# Altium integrated library Altera MAX V.IntLib: 184 symbols (part 7 of 16)
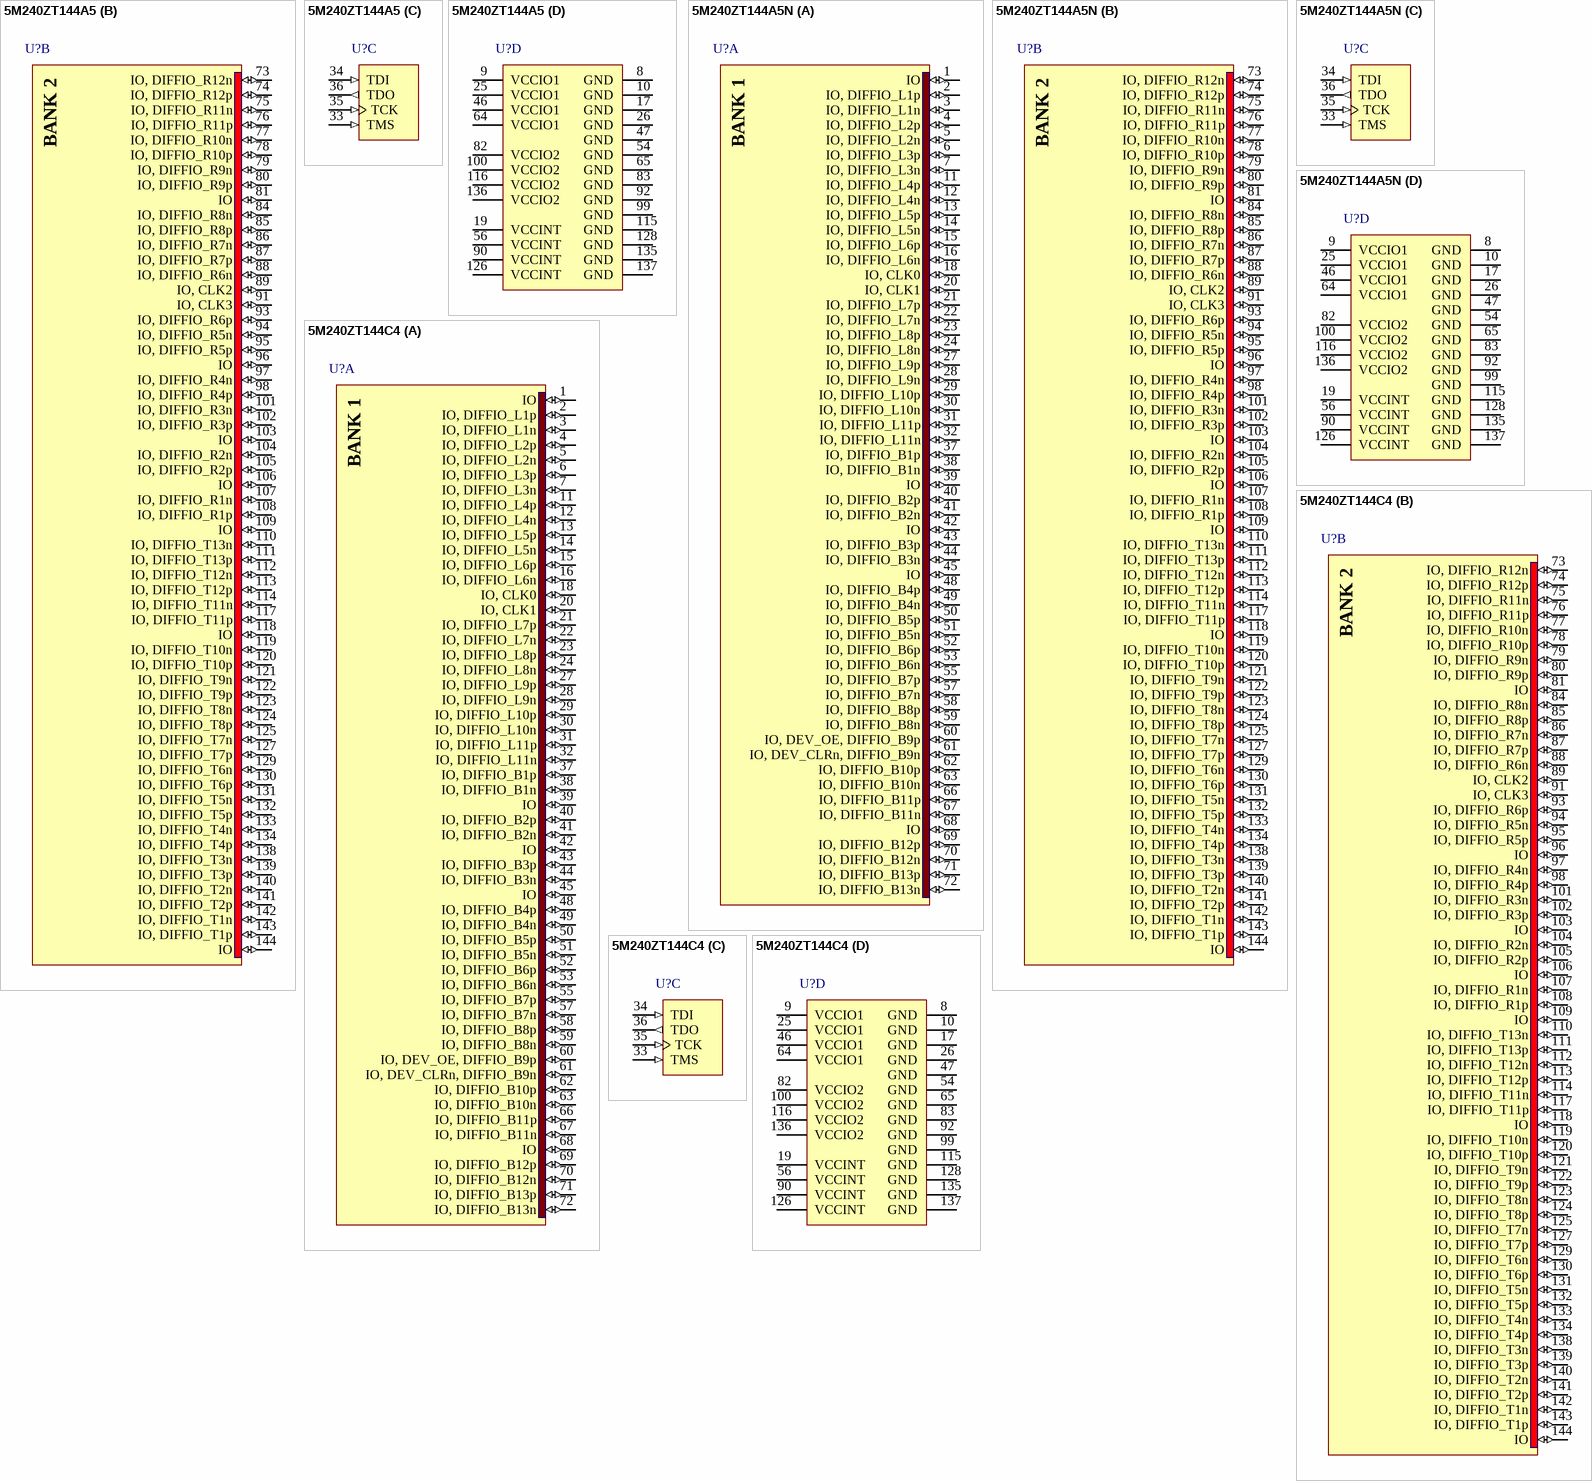
[diagram p83: symbols 5M240ZT144A5 to 5M240ZT144C4]

## 5M240ZT144C4
designator U?
MAX V 1.8V CPLD, 114 IOs, 240 Logic Elements, 144-Pin TQFP, Commercial Temperature, Speed Grade 4; DatasheetVersion: ver1.2, May-2011; PackageVersion: ver1.0, Jul-2011; PackageReference: TQFP144_A-160; PackageDescription: 144-Pin Plastic Thin Quad Flat Pack (TQFP) - Wire Bond - A:1.60; Code_JEDEC: MS-029-BFB; ComponentLink1Description: Manufacturer URL; ComponentLink1URL: http://www.altera.com/; ComponentLink2Description: Datasheet; ComponentLink2URL: http://www.altera.com/literature/hb/max-v/max5_handbook.pdf; ComponentLink3Description: MAX V Device Pin-Out files; ComponentLink3URL: http://www.altera.com/literature/lit-dp.jsp?category=MAX%205&showspreadsheet=y; ComponentLink4Description: Package Specification; ComponentLink4URL: http://www.altera.com/devicepackaging/04R00366-01.pdf
footprint TQFP144_A-160_N (Thin QFP, 144-Leads, Body 20x20mm, Pitch 0.5mm, IPC Medium Density)
footprint TQFP144_A-160_L (Thin QFP, 144-Leads, Body 20x20mm, Pitch 0.5mm, IPC High Density)
footprint TQFP144_A-160_M (Thin QFP, 144-Leads, Body 20x20mm, Pitch 0.5mm, IPC Low Density)
part A pins: 1 IO (io), 2 IO, DIFFIO_L1p (io), 3 IO, DIFFIO_L1n (io), 4 IO, DIFFIO_L2p (io), 5 IO, DIFFIO_L2n (io), 6 IO, DIFFIO_L3p (io), 7 IO, DIFFIO_L3n (io), 11 IO, DIFFIO_L4p (io), 12 IO, DIFFIO_L4n (io), 13 IO, DIFFIO_L5p (io), 14 IO, DIFFIO_L5n (io), 15 IO, DIFFIO_L6p (io), 16 IO, DIFFIO_L6n (io), 18 IO, CLK0 (io), 20 IO, CLK1 (io), 21 IO, DIFFIO_L7p (io), 22 IO, DIFFIO_L7n (io), 23 IO, DIFFIO_L8p (io), 24 IO, DIFFIO_L8n (io), 27 IO, DIFFIO_L9p (io), 28 IO, DIFFIO_L9n (io), 29 IO, DIFFIO_L10p (io), 30 IO, DIFFIO_L10n (io), 31 IO, DIFFIO_L11p (io), 32 IO, DIFFIO_L11n (io), 37 IO, DIFFIO_B1p (io), 38 IO, DIFFIO_B1n (io), 39 IO (io), 40 IO, DIFFIO_B2p (io), 41 IO, DIFFIO_B2n (io), 42 IO (io), 43 IO, DIFFIO_B3p (io), 44 IO, DIFFIO_B3n (io), 45 IO (io), 48 IO, DIFFIO_B4p (io), 49 IO, DIFFIO_B4n (io), 50 IO, DIFFIO_B5p (io), 51 IO, DIFFIO_B5n (io), 52 IO, DIFFIO_B6p (io), 53 IO, DIFFIO_B6n (io), 55 IO, DIFFIO_B7p (io), 57 IO, DIFFIO_B7n (io), 58 IO, DIFFIO_B8p (io), 59 IO, DIFFIO_B8n (io), 60 IO, DEV_OE, DIFFIO_B9p (io), 61 IO, DEV_CLRn, DIFFIO_B9n (io), 62 IO, DIFFIO_B10p (io), 63 IO, DIFFIO_B10n (io), 66 IO, DIFFIO_B11p (io), 67 IO, DIFFIO_B11n (io), 68 IO (io), 69 IO, DIFFIO_B12p (io), 70 IO, DIFFIO_B12n (io), 71 IO, DIFFIO_B13p (io), 72 IO, DIFFIO_B13n (io)
part B pins: 73 IO, DIFFIO_R12n (io), 74 IO, DIFFIO_R12p (io), 75 IO, DIFFIO_R11n (io), 76 IO, DIFFIO_R11p (io), 77 IO, DIFFIO_R10n (io), 78 IO, DIFFIO_R10p (io), 79 IO, DIFFIO_R9n (io), 80 IO, DIFFIO_R9p (io), 81 IO (io), 84 IO, DIFFIO_R8n (io), 85 IO, DIFFIO_R8p (io), 86 IO, DIFFIO_R7n (io), 87 IO, DIFFIO_R7p (io), 88 IO, DIFFIO_R6n (io), 89 IO, CLK2 (io), 91 IO, CLK3 (io), 93 IO, DIFFIO_R6p (io), 94 IO, DIFFIO_R5n (io), 95 IO, DIFFIO_R5p (io), 96 IO (io), 97 IO, DIFFIO_R4n (io), 98 IO, DIFFIO_R4p (io), 101 IO, DIFFIO_R3n (io), 102 IO, DIFFIO_R3p (io), 103 IO (io), 104 IO, DIFFIO_R2n (io), 105 IO, DIFFIO_R2p (io), 106 IO (io), 107 IO, DIFFIO_R1n (io), 108 IO, DIFFIO_R1p (io), 109 IO (io), 110 IO, DIFFIO_T13n (io), 111 IO, DIFFIO_T13p (io), 112 IO, DIFFIO_T12n (io), 113 IO, DIFFIO_T12p (io), 114 IO, DIFFIO_T11n (io), 117 IO, DIFFIO_T11p (io), 118 IO (io), 119 IO, DIFFIO_T10n (io), 120 IO, DIFFIO_T10p (io), 121 IO, DIFFIO_T9n (io), 122 IO, DIFFIO_T9p (io), 123 IO, DIFFIO_T8n (io), 124 IO, DIFFIO_T8p (io), 125 IO, DIFFIO_T7n (io), 127 IO, DIFFIO_T7p (io), 129 IO, DIFFIO_T6n (io), 130 IO, DIFFIO_T6p (io), 131 IO, DIFFIO_T5n (io), 132 IO, DIFFIO_T5p (io), 133 IO, DIFFIO_T4n (io), 134 IO, DIFFIO_T4p (io), 138 IO, DIFFIO_T3n (io), 139 IO, DIFFIO_T3p (io), 140 IO, DIFFIO_T2n (io), 141 IO, DIFFIO_T2p (io), 142 IO, DIFFIO_T1n (io), 143 IO, DIFFIO_T1p (io), 144 IO (io)
part C pins: 33 TMS (in), 34 TDI (in), 35 TCK (in), 36 TDO (out)
part D pins: 8 GND (power), 9 VCCIO1 (power), 10 GND (power), 17 GND (power), 19 VCCINT (power), 25 VCCIO1 (power), 26 GND (power), 46 VCCIO1 (power), 47 GND (power), 54 GND (power), 56 VCCINT (power), 64 VCCIO1 (power), 65 GND (power), 82 VCCIO2 (power), 83 GND (power), 90 VCCINT (power), 92 GND (power), 99 GND (power), 100 VCCIO2 (power), 115 GND (power), 116 VCCIO2 (power), 126 VCCINT (power), 128 GND (power), 135 GND (power), 136 VCCIO2 (power), 137 GND (power)
part A text: BANK 1
part B text: BANK 2

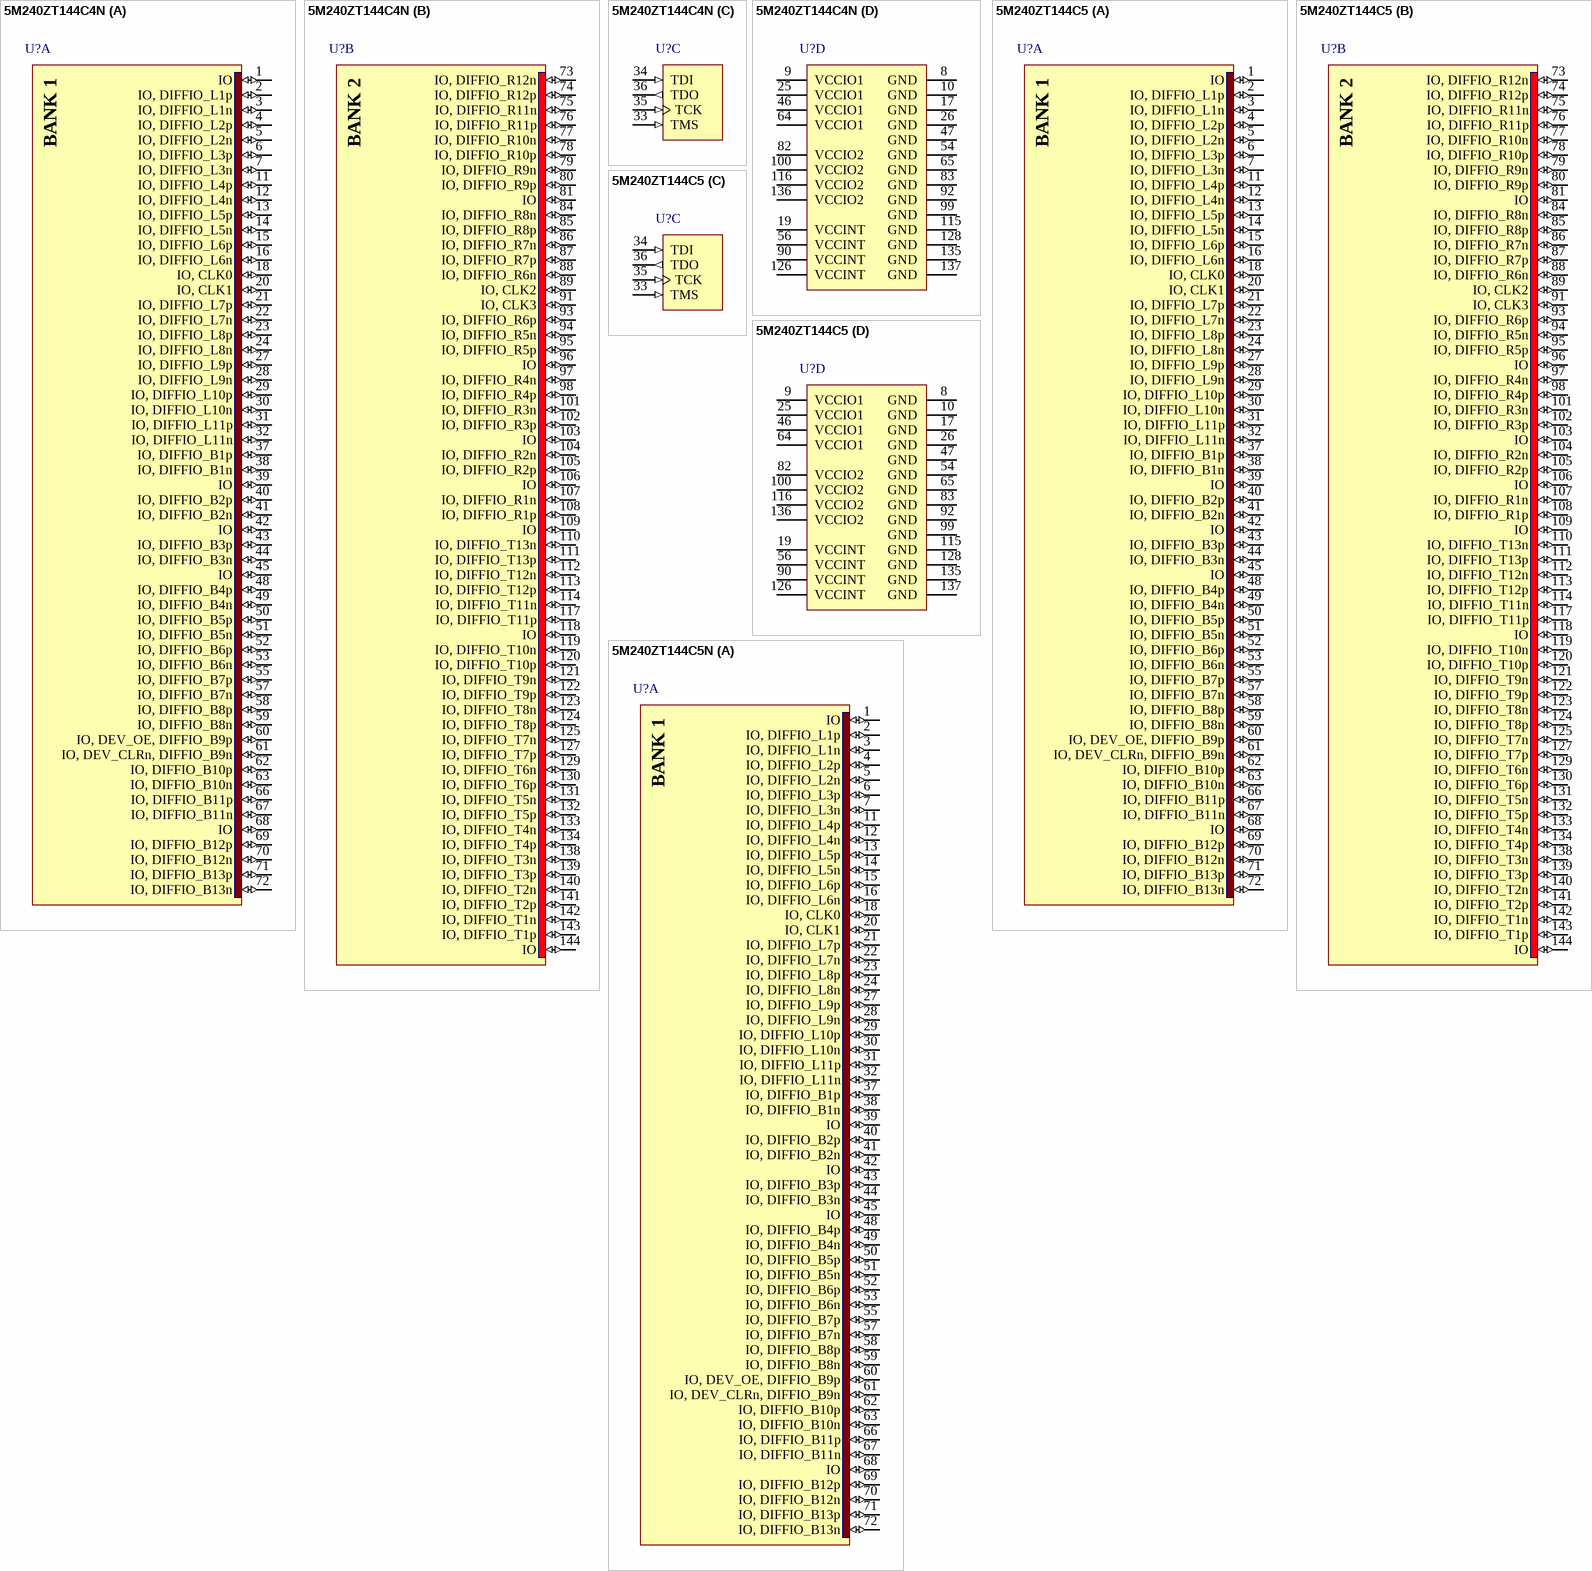
[diagram p27: symbols 5M240ZT144C4N to 5M240ZT144C5N]

## 5M240ZT144C4N
designator U?
MAX V 1.8V CPLD, 114 IOs, 240 Logic Elements, 144-Pin TQFP, Commercial Temperature, Speed Grade 4, Pb-Free; DatasheetVersion: ver1.2, May-2011; PackageVersion: ver1.0, Jul-2011; PackageReference: TQFP144_A-160; PackageDescription: 144-Pin Plastic Thin Quad Flat Pack (TQFP) - Wire Bond - A:1.60; Code_JEDEC: MS-029-BFB; ComponentLink1Description: Manufacturer URL; ComponentLink1URL: http://www.altera.com/; ComponentLink2Description: Datasheet; ComponentLink2URL: http://www.altera.com/literature/hb/max-v/max5_handbook.pdf; ComponentLink3Description: MAX V Device Pin-Out files; ComponentLink3URL: http://www.altera.com/literature/lit-dp.jsp?category=MAX%205&showspreadsheet=y; ComponentLink4Description: Package Specification; ComponentLink4URL: http://www.altera.com/devicepackaging/04R00366-01.pdf
footprint TQFP144_A-160_N (Thin QFP, 144-Leads, Body 20x20mm, Pitch 0.5mm, IPC Medium Density)
footprint TQFP144_A-160_L (Thin QFP, 144-Leads, Body 20x20mm, Pitch 0.5mm, IPC High Density)
footprint TQFP144_A-160_M (Thin QFP, 144-Leads, Body 20x20mm, Pitch 0.5mm, IPC Low Density)
part A pins: 1 IO (io), 2 IO, DIFFIO_L1p (io), 3 IO, DIFFIO_L1n (io), 4 IO, DIFFIO_L2p (io), 5 IO, DIFFIO_L2n (io), 6 IO, DIFFIO_L3p (io), 7 IO, DIFFIO_L3n (io), 11 IO, DIFFIO_L4p (io), 12 IO, DIFFIO_L4n (io), 13 IO, DIFFIO_L5p (io), 14 IO, DIFFIO_L5n (io), 15 IO, DIFFIO_L6p (io), 16 IO, DIFFIO_L6n (io), 18 IO, CLK0 (io), 20 IO, CLK1 (io), 21 IO, DIFFIO_L7p (io), 22 IO, DIFFIO_L7n (io), 23 IO, DIFFIO_L8p (io), 24 IO, DIFFIO_L8n (io), 27 IO, DIFFIO_L9p (io), 28 IO, DIFFIO_L9n (io), 29 IO, DIFFIO_L10p (io), 30 IO, DIFFIO_L10n (io), 31 IO, DIFFIO_L11p (io), 32 IO, DIFFIO_L11n (io), 37 IO, DIFFIO_B1p (io), 38 IO, DIFFIO_B1n (io), 39 IO (io), 40 IO, DIFFIO_B2p (io), 41 IO, DIFFIO_B2n (io), 42 IO (io), 43 IO, DIFFIO_B3p (io), 44 IO, DIFFIO_B3n (io), 45 IO (io), 48 IO, DIFFIO_B4p (io), 49 IO, DIFFIO_B4n (io), 50 IO, DIFFIO_B5p (io), 51 IO, DIFFIO_B5n (io), 52 IO, DIFFIO_B6p (io), 53 IO, DIFFIO_B6n (io), 55 IO, DIFFIO_B7p (io), 57 IO, DIFFIO_B7n (io), 58 IO, DIFFIO_B8p (io), 59 IO, DIFFIO_B8n (io), 60 IO, DEV_OE, DIFFIO_B9p (io), 61 IO, DEV_CLRn, DIFFIO_B9n (io), 62 IO, DIFFIO_B10p (io), 63 IO, DIFFIO_B10n (io), 66 IO, DIFFIO_B11p (io), 67 IO, DIFFIO_B11n (io), 68 IO (io), 69 IO, DIFFIO_B12p (io), 70 IO, DIFFIO_B12n (io), 71 IO, DIFFIO_B13p (io), 72 IO, DIFFIO_B13n (io)
part B pins: 73 IO, DIFFIO_R12n (io), 74 IO, DIFFIO_R12p (io), 75 IO, DIFFIO_R11n (io), 76 IO, DIFFIO_R11p (io), 77 IO, DIFFIO_R10n (io), 78 IO, DIFFIO_R10p (io), 79 IO, DIFFIO_R9n (io), 80 IO, DIFFIO_R9p (io), 81 IO (io), 84 IO, DIFFIO_R8n (io), 85 IO, DIFFIO_R8p (io), 86 IO, DIFFIO_R7n (io), 87 IO, DIFFIO_R7p (io), 88 IO, DIFFIO_R6n (io), 89 IO, CLK2 (io), 91 IO, CLK3 (io), 93 IO, DIFFIO_R6p (io), 94 IO, DIFFIO_R5n (io), 95 IO, DIFFIO_R5p (io), 96 IO (io), 97 IO, DIFFIO_R4n (io), 98 IO, DIFFIO_R4p (io), 101 IO, DIFFIO_R3n (io), 102 IO, DIFFIO_R3p (io), 103 IO (io), 104 IO, DIFFIO_R2n (io), 105 IO, DIFFIO_R2p (io), 106 IO (io), 107 IO, DIFFIO_R1n (io), 108 IO, DIFFIO_R1p (io), 109 IO (io), 110 IO, DIFFIO_T13n (io), 111 IO, DIFFIO_T13p (io), 112 IO, DIFFIO_T12n (io), 113 IO, DIFFIO_T12p (io), 114 IO, DIFFIO_T11n (io), 117 IO, DIFFIO_T11p (io), 118 IO (io), 119 IO, DIFFIO_T10n (io), 120 IO, DIFFIO_T10p (io), 121 IO, DIFFIO_T9n (io), 122 IO, DIFFIO_T9p (io), 123 IO, DIFFIO_T8n (io), 124 IO, DIFFIO_T8p (io), 125 IO, DIFFIO_T7n (io), 127 IO, DIFFIO_T7p (io), 129 IO, DIFFIO_T6n (io), 130 IO, DIFFIO_T6p (io), 131 IO, DIFFIO_T5n (io), 132 IO, DIFFIO_T5p (io), 133 IO, DIFFIO_T4n (io), 134 IO, DIFFIO_T4p (io), 138 IO, DIFFIO_T3n (io), 139 IO, DIFFIO_T3p (io), 140 IO, DIFFIO_T2n (io), 141 IO, DIFFIO_T2p (io), 142 IO, DIFFIO_T1n (io), 143 IO, DIFFIO_T1p (io), 144 IO (io)
part C pins: 33 TMS (in), 34 TDI (in), 35 TCK (in), 36 TDO (out)
part D pins: 8 GND (power), 9 VCCIO1 (power), 10 GND (power), 17 GND (power), 19 VCCINT (power), 25 VCCIO1 (power), 26 GND (power), 46 VCCIO1 (power), 47 GND (power), 54 GND (power), 56 VCCINT (power), 64 VCCIO1 (power), 65 GND (power), 82 VCCIO2 (power), 83 GND (power), 90 VCCINT (power), 92 GND (power), 99 GND (power), 100 VCCIO2 (power), 115 GND (power), 116 VCCIO2 (power), 126 VCCINT (power), 128 GND (power), 135 GND (power), 136 VCCIO2 (power), 137 GND (power)
part A text: BANK 1
part B text: BANK 2

## 5M240ZT144C5
designator U?
MAX V 1.8V CPLD, 114 IOs, 240 Logic Elements, 144-Pin TQFP, Commercial Temperature, Speed Grade 5; DatasheetVersion: ver1.2, May-2011; PackageVersion: ver1.0, Jul-2011; PackageReference: TQFP144_A-160; PackageDescription: 144-Pin Plastic Thin Quad Flat Pack (TQFP) - Wire Bond - A:1.60; Code_JEDEC: MS-029-BFB; ComponentLink1Description: Manufacturer URL; ComponentLink1URL: http://www.altera.com/; ComponentLink2Description: Datasheet; ComponentLink2URL: http://www.altera.com/literature/hb/max-v/max5_handbook.pdf; ComponentLink3Description: MAX V Device Pin-Out files; ComponentLink3URL: http://www.altera.com/literature/lit-dp.jsp?category=MAX%205&showspreadsheet=y; ComponentLink4Description: Package Specification; ComponentLink4URL: http://www.altera.com/devicepackaging/04R00366-01.pdf
footprint TQFP144_A-160_N (Thin QFP, 144-Leads, Body 20x20mm, Pitch 0.5mm, IPC Medium Density)
footprint TQFP144_A-160_L (Thin QFP, 144-Leads, Body 20x20mm, Pitch 0.5mm, IPC High Density)
footprint TQFP144_A-160_M (Thin QFP, 144-Leads, Body 20x20mm, Pitch 0.5mm, IPC Low Density)
part A pins: 1 IO (io), 2 IO, DIFFIO_L1p (io), 3 IO, DIFFIO_L1n (io), 4 IO, DIFFIO_L2p (io), 5 IO, DIFFIO_L2n (io), 6 IO, DIFFIO_L3p (io), 7 IO, DIFFIO_L3n (io), 11 IO, DIFFIO_L4p (io), 12 IO, DIFFIO_L4n (io), 13 IO, DIFFIO_L5p (io), 14 IO, DIFFIO_L5n (io), 15 IO, DIFFIO_L6p (io), 16 IO, DIFFIO_L6n (io), 18 IO, CLK0 (io), 20 IO, CLK1 (io), 21 IO, DIFFIO_L7p (io), 22 IO, DIFFIO_L7n (io), 23 IO, DIFFIO_L8p (io), 24 IO, DIFFIO_L8n (io), 27 IO, DIFFIO_L9p (io), 28 IO, DIFFIO_L9n (io), 29 IO, DIFFIO_L10p (io), 30 IO, DIFFIO_L10n (io), 31 IO, DIFFIO_L11p (io), 32 IO, DIFFIO_L11n (io), 37 IO, DIFFIO_B1p (io), 38 IO, DIFFIO_B1n (io), 39 IO (io), 40 IO, DIFFIO_B2p (io), 41 IO, DIFFIO_B2n (io), 42 IO (io), 43 IO, DIFFIO_B3p (io), 44 IO, DIFFIO_B3n (io), 45 IO (io), 48 IO, DIFFIO_B4p (io), 49 IO, DIFFIO_B4n (io), 50 IO, DIFFIO_B5p (io), 51 IO, DIFFIO_B5n (io), 52 IO, DIFFIO_B6p (io), 53 IO, DIFFIO_B6n (io), 55 IO, DIFFIO_B7p (io), 57 IO, DIFFIO_B7n (io), 58 IO, DIFFIO_B8p (io), 59 IO, DIFFIO_B8n (io), 60 IO, DEV_OE, DIFFIO_B9p (io), 61 IO, DEV_CLRn, DIFFIO_B9n (io), 62 IO, DIFFIO_B10p (io), 63 IO, DIFFIO_B10n (io), 66 IO, DIFFIO_B11p (io), 67 IO, DIFFIO_B11n (io), 68 IO (io), 69 IO, DIFFIO_B12p (io), 70 IO, DIFFIO_B12n (io), 71 IO, DIFFIO_B13p (io), 72 IO, DIFFIO_B13n (io)
part B pins: 73 IO, DIFFIO_R12n (io), 74 IO, DIFFIO_R12p (io), 75 IO, DIFFIO_R11n (io), 76 IO, DIFFIO_R11p (io), 77 IO, DIFFIO_R10n (io), 78 IO, DIFFIO_R10p (io), 79 IO, DIFFIO_R9n (io), 80 IO, DIFFIO_R9p (io), 81 IO (io), 84 IO, DIFFIO_R8n (io), 85 IO, DIFFIO_R8p (io), 86 IO, DIFFIO_R7n (io), 87 IO, DIFFIO_R7p (io), 88 IO, DIFFIO_R6n (io), 89 IO, CLK2 (io), 91 IO, CLK3 (io), 93 IO, DIFFIO_R6p (io), 94 IO, DIFFIO_R5n (io), 95 IO, DIFFIO_R5p (io), 96 IO (io), 97 IO, DIFFIO_R4n (io), 98 IO, DIFFIO_R4p (io), 101 IO, DIFFIO_R3n (io), 102 IO, DIFFIO_R3p (io), 103 IO (io), 104 IO, DIFFIO_R2n (io), 105 IO, DIFFIO_R2p (io), 106 IO (io), 107 IO, DIFFIO_R1n (io), 108 IO, DIFFIO_R1p (io), 109 IO (io), 110 IO, DIFFIO_T13n (io), 111 IO, DIFFIO_T13p (io), 112 IO, DIFFIO_T12n (io), 113 IO, DIFFIO_T12p (io), 114 IO, DIFFIO_T11n (io), 117 IO, DIFFIO_T11p (io), 118 IO (io), 119 IO, DIFFIO_T10n (io), 120 IO, DIFFIO_T10p (io), 121 IO, DIFFIO_T9n (io), 122 IO, DIFFIO_T9p (io), 123 IO, DIFFIO_T8n (io), 124 IO, DIFFIO_T8p (io), 125 IO, DIFFIO_T7n (io), 127 IO, DIFFIO_T7p (io), 129 IO, DIFFIO_T6n (io), 130 IO, DIFFIO_T6p (io), 131 IO, DIFFIO_T5n (io), 132 IO, DIFFIO_T5p (io), 133 IO, DIFFIO_T4n (io), 134 IO, DIFFIO_T4p (io), 138 IO, DIFFIO_T3n (io), 139 IO, DIFFIO_T3p (io), 140 IO, DIFFIO_T2n (io), 141 IO, DIFFIO_T2p (io), 142 IO, DIFFIO_T1n (io), 143 IO, DIFFIO_T1p (io), 144 IO (io)
part C pins: 33 TMS (in), 34 TDI (in), 35 TCK (in), 36 TDO (out)
part D pins: 8 GND (power), 9 VCCIO1 (power), 10 GND (power), 17 GND (power), 19 VCCINT (power), 25 VCCIO1 (power), 26 GND (power), 46 VCCIO1 (power), 47 GND (power), 54 GND (power), 56 VCCINT (power), 64 VCCIO1 (power), 65 GND (power), 82 VCCIO2 (power), 83 GND (power), 90 VCCINT (power), 92 GND (power), 99 GND (power), 100 VCCIO2 (power), 115 GND (power), 116 VCCIO2 (power), 126 VCCINT (power), 128 GND (power), 135 GND (power), 136 VCCIO2 (power), 137 GND (power)
part A text: BANK 1
part B text: BANK 2

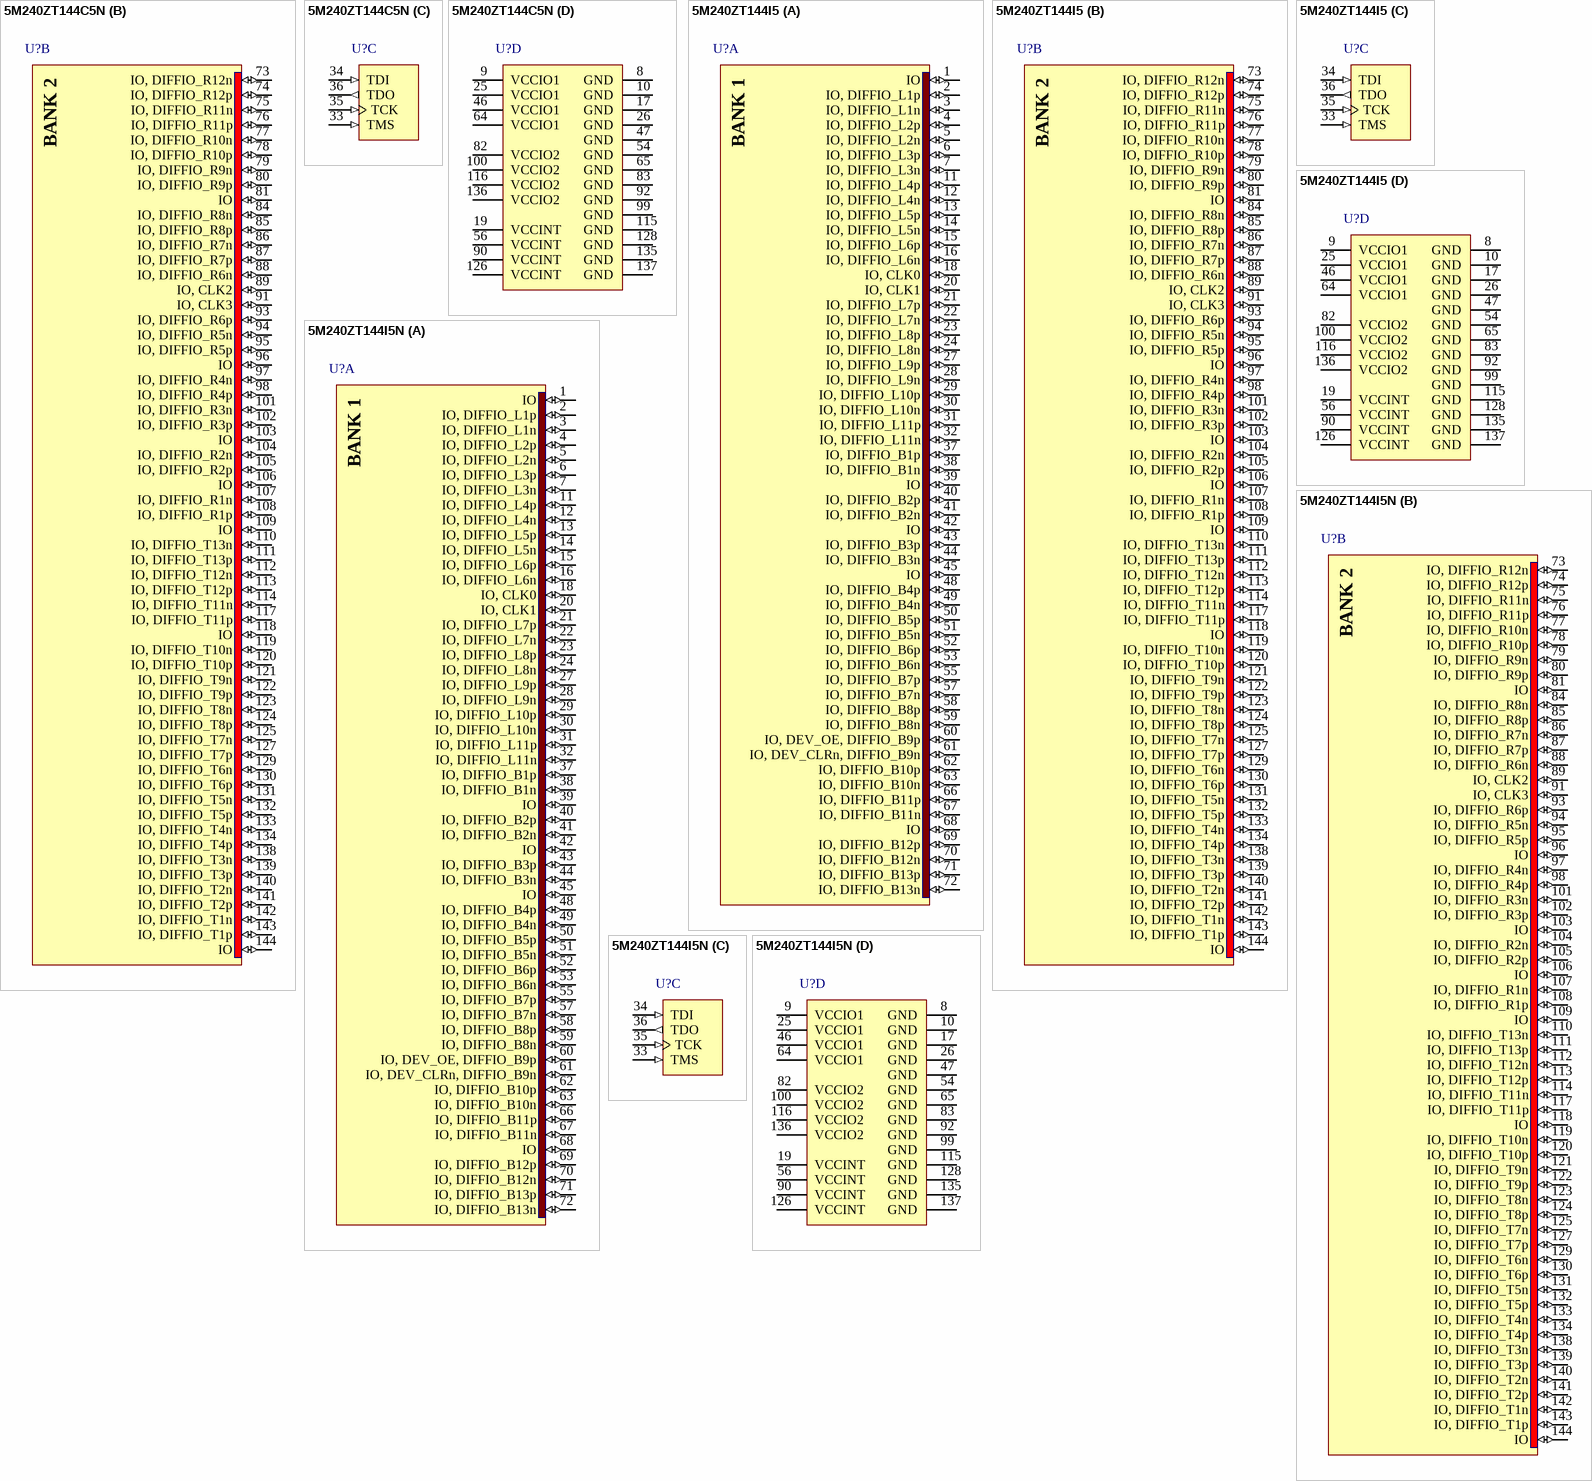
[diagram p28: symbols 5M240ZT144C5N to 5M240ZT144I5N]

## 5M240ZT144C5N
designator U?
MAX V 1.8V CPLD, 114 IOs, 240 Logic Elements, 144-Pin TQFP, Commercial Temperature, Speed Grade 5, Pb-Free; DatasheetVersion: ver1.2, May-2011; PackageVersion: ver1.0, Jul-2011; PackageReference: TQFP144_A-160; PackageDescription: 144-Pin Plastic Thin Quad Flat Pack (TQFP) - Wire Bond - A:1.60; Code_JEDEC: MS-029-BFB; ComponentLink1Description: Manufacturer URL; ComponentLink1URL: http://www.altera.com/; ComponentLink2Description: Datasheet; ComponentLink2URL: http://www.altera.com/literature/hb/max-v/max5_handbook.pdf; ComponentLink3Description: MAX V Device Pin-Out files; ComponentLink3URL: http://www.altera.com/literature/lit-dp.jsp?category=MAX%205&showspreadsheet=y; ComponentLink4Description: Package Specification; ComponentLink4URL: http://www.altera.com/devicepackaging/04R00366-01.pdf
footprint TQFP144_A-160_N (Thin QFP, 144-Leads, Body 20x20mm, Pitch 0.5mm, IPC Medium Density)
footprint TQFP144_A-160_L (Thin QFP, 144-Leads, Body 20x20mm, Pitch 0.5mm, IPC High Density)
footprint TQFP144_A-160_M (Thin QFP, 144-Leads, Body 20x20mm, Pitch 0.5mm, IPC Low Density)
part A pins: 1 IO (io), 2 IO, DIFFIO_L1p (io), 3 IO, DIFFIO_L1n (io), 4 IO, DIFFIO_L2p (io), 5 IO, DIFFIO_L2n (io), 6 IO, DIFFIO_L3p (io), 7 IO, DIFFIO_L3n (io), 11 IO, DIFFIO_L4p (io), 12 IO, DIFFIO_L4n (io), 13 IO, DIFFIO_L5p (io), 14 IO, DIFFIO_L5n (io), 15 IO, DIFFIO_L6p (io), 16 IO, DIFFIO_L6n (io), 18 IO, CLK0 (io), 20 IO, CLK1 (io), 21 IO, DIFFIO_L7p (io), 22 IO, DIFFIO_L7n (io), 23 IO, DIFFIO_L8p (io), 24 IO, DIFFIO_L8n (io), 27 IO, DIFFIO_L9p (io), 28 IO, DIFFIO_L9n (io), 29 IO, DIFFIO_L10p (io), 30 IO, DIFFIO_L10n (io), 31 IO, DIFFIO_L11p (io), 32 IO, DIFFIO_L11n (io), 37 IO, DIFFIO_B1p (io), 38 IO, DIFFIO_B1n (io), 39 IO (io), 40 IO, DIFFIO_B2p (io), 41 IO, DIFFIO_B2n (io), 42 IO (io), 43 IO, DIFFIO_B3p (io), 44 IO, DIFFIO_B3n (io), 45 IO (io), 48 IO, DIFFIO_B4p (io), 49 IO, DIFFIO_B4n (io), 50 IO, DIFFIO_B5p (io), 51 IO, DIFFIO_B5n (io), 52 IO, DIFFIO_B6p (io), 53 IO, DIFFIO_B6n (io), 55 IO, DIFFIO_B7p (io), 57 IO, DIFFIO_B7n (io), 58 IO, DIFFIO_B8p (io), 59 IO, DIFFIO_B8n (io), 60 IO, DEV_OE, DIFFIO_B9p (io), 61 IO, DEV_CLRn, DIFFIO_B9n (io), 62 IO, DIFFIO_B10p (io), 63 IO, DIFFIO_B10n (io), 66 IO, DIFFIO_B11p (io), 67 IO, DIFFIO_B11n (io), 68 IO (io), 69 IO, DIFFIO_B12p (io), 70 IO, DIFFIO_B12n (io), 71 IO, DIFFIO_B13p (io), 72 IO, DIFFIO_B13n (io)
part B pins: 73 IO, DIFFIO_R12n (io), 74 IO, DIFFIO_R12p (io), 75 IO, DIFFIO_R11n (io), 76 IO, DIFFIO_R11p (io), 77 IO, DIFFIO_R10n (io), 78 IO, DIFFIO_R10p (io), 79 IO, DIFFIO_R9n (io), 80 IO, DIFFIO_R9p (io), 81 IO (io), 84 IO, DIFFIO_R8n (io), 85 IO, DIFFIO_R8p (io), 86 IO, DIFFIO_R7n (io), 87 IO, DIFFIO_R7p (io), 88 IO, DIFFIO_R6n (io), 89 IO, CLK2 (io), 91 IO, CLK3 (io), 93 IO, DIFFIO_R6p (io), 94 IO, DIFFIO_R5n (io), 95 IO, DIFFIO_R5p (io), 96 IO (io), 97 IO, DIFFIO_R4n (io), 98 IO, DIFFIO_R4p (io), 101 IO, DIFFIO_R3n (io), 102 IO, DIFFIO_R3p (io), 103 IO (io), 104 IO, DIFFIO_R2n (io), 105 IO, DIFFIO_R2p (io), 106 IO (io), 107 IO, DIFFIO_R1n (io), 108 IO, DIFFIO_R1p (io), 109 IO (io), 110 IO, DIFFIO_T13n (io), 111 IO, DIFFIO_T13p (io), 112 IO, DIFFIO_T12n (io), 113 IO, DIFFIO_T12p (io), 114 IO, DIFFIO_T11n (io), 117 IO, DIFFIO_T11p (io), 118 IO (io), 119 IO, DIFFIO_T10n (io), 120 IO, DIFFIO_T10p (io), 121 IO, DIFFIO_T9n (io), 122 IO, DIFFIO_T9p (io), 123 IO, DIFFIO_T8n (io), 124 IO, DIFFIO_T8p (io), 125 IO, DIFFIO_T7n (io), 127 IO, DIFFIO_T7p (io), 129 IO, DIFFIO_T6n (io), 130 IO, DIFFIO_T6p (io), 131 IO, DIFFIO_T5n (io), 132 IO, DIFFIO_T5p (io), 133 IO, DIFFIO_T4n (io), 134 IO, DIFFIO_T4p (io), 138 IO, DIFFIO_T3n (io), 139 IO, DIFFIO_T3p (io), 140 IO, DIFFIO_T2n (io), 141 IO, DIFFIO_T2p (io), 142 IO, DIFFIO_T1n (io), 143 IO, DIFFIO_T1p (io), 144 IO (io)
part C pins: 33 TMS (in), 34 TDI (in), 35 TCK (in), 36 TDO (out)
part D pins: 8 GND (power), 9 VCCIO1 (power), 10 GND (power), 17 GND (power), 19 VCCINT (power), 25 VCCIO1 (power), 26 GND (power), 46 VCCIO1 (power), 47 GND (power), 54 GND (power), 56 VCCINT (power), 64 VCCIO1 (power), 65 GND (power), 82 VCCIO2 (power), 83 GND (power), 90 VCCINT (power), 92 GND (power), 99 GND (power), 100 VCCIO2 (power), 115 GND (power), 116 VCCIO2 (power), 126 VCCINT (power), 128 GND (power), 135 GND (power), 136 VCCIO2 (power), 137 GND (power)
part A text: BANK 1
part B text: BANK 2

## 5M240ZT144I5
designator U?
MAX V 1.8V CPLD, 114 IOs, 240 Logic Elements, 144-Pin TQFP, Industrial Temperature, Speed Grade 5; DatasheetVersion: ver1.2, May-2011; PackageVersion: ver1.0, Jul-2011; PackageReference: TQFP144_A-160; PackageDescription: 144-Pin Plastic Thin Quad Flat Pack (TQFP) - Wire Bond - A:1.60; Code_JEDEC: MS-029-BFB; ComponentLink1Description: Manufacturer URL; ComponentLink1URL: http://www.altera.com/; ComponentLink2Description: Datasheet; ComponentLink2URL: http://www.altera.com/literature/hb/max-v/max5_handbook.pdf; ComponentLink3Description: MAX V Device Pin-Out files; ComponentLink3URL: http://www.altera.com/literature/lit-dp.jsp?category=MAX%205&showspreadsheet=y; ComponentLink4Description: Package Specification; ComponentLink4URL: http://www.altera.com/devicepackaging/04R00366-01.pdf
footprint TQFP144_A-160_N (Thin QFP, 144-Leads, Body 20x20mm, Pitch 0.5mm, IPC Medium Density)
footprint TQFP144_A-160_L (Thin QFP, 144-Leads, Body 20x20mm, Pitch 0.5mm, IPC High Density)
footprint TQFP144_A-160_M (Thin QFP, 144-Leads, Body 20x20mm, Pitch 0.5mm, IPC Low Density)
part A pins: 1 IO (io), 2 IO, DIFFIO_L1p (io), 3 IO, DIFFIO_L1n (io), 4 IO, DIFFIO_L2p (io), 5 IO, DIFFIO_L2n (io), 6 IO, DIFFIO_L3p (io), 7 IO, DIFFIO_L3n (io), 11 IO, DIFFIO_L4p (io), 12 IO, DIFFIO_L4n (io), 13 IO, DIFFIO_L5p (io), 14 IO, DIFFIO_L5n (io), 15 IO, DIFFIO_L6p (io), 16 IO, DIFFIO_L6n (io), 18 IO, CLK0 (io), 20 IO, CLK1 (io), 21 IO, DIFFIO_L7p (io), 22 IO, DIFFIO_L7n (io), 23 IO, DIFFIO_L8p (io), 24 IO, DIFFIO_L8n (io), 27 IO, DIFFIO_L9p (io), 28 IO, DIFFIO_L9n (io), 29 IO, DIFFIO_L10p (io), 30 IO, DIFFIO_L10n (io), 31 IO, DIFFIO_L11p (io), 32 IO, DIFFIO_L11n (io), 37 IO, DIFFIO_B1p (io), 38 IO, DIFFIO_B1n (io), 39 IO (io), 40 IO, DIFFIO_B2p (io), 41 IO, DIFFIO_B2n (io), 42 IO (io), 43 IO, DIFFIO_B3p (io), 44 IO, DIFFIO_B3n (io), 45 IO (io), 48 IO, DIFFIO_B4p (io), 49 IO, DIFFIO_B4n (io), 50 IO, DIFFIO_B5p (io), 51 IO, DIFFIO_B5n (io), 52 IO, DIFFIO_B6p (io), 53 IO, DIFFIO_B6n (io), 55 IO, DIFFIO_B7p (io), 57 IO, DIFFIO_B7n (io), 58 IO, DIFFIO_B8p (io), 59 IO, DIFFIO_B8n (io), 60 IO, DEV_OE, DIFFIO_B9p (io), 61 IO, DEV_CLRn, DIFFIO_B9n (io), 62 IO, DIFFIO_B10p (io), 63 IO, DIFFIO_B10n (io), 66 IO, DIFFIO_B11p (io), 67 IO, DIFFIO_B11n (io), 68 IO (io), 69 IO, DIFFIO_B12p (io), 70 IO, DIFFIO_B12n (io), 71 IO, DIFFIO_B13p (io), 72 IO, DIFFIO_B13n (io)
part B pins: 73 IO, DIFFIO_R12n (io), 74 IO, DIFFIO_R12p (io), 75 IO, DIFFIO_R11n (io), 76 IO, DIFFIO_R11p (io), 77 IO, DIFFIO_R10n (io), 78 IO, DIFFIO_R10p (io), 79 IO, DIFFIO_R9n (io), 80 IO, DIFFIO_R9p (io), 81 IO (io), 84 IO, DIFFIO_R8n (io), 85 IO, DIFFIO_R8p (io), 86 IO, DIFFIO_R7n (io), 87 IO, DIFFIO_R7p (io), 88 IO, DIFFIO_R6n (io), 89 IO, CLK2 (io), 91 IO, CLK3 (io), 93 IO, DIFFIO_R6p (io), 94 IO, DIFFIO_R5n (io), 95 IO, DIFFIO_R5p (io), 96 IO (io), 97 IO, DIFFIO_R4n (io), 98 IO, DIFFIO_R4p (io), 101 IO, DIFFIO_R3n (io), 102 IO, DIFFIO_R3p (io), 103 IO (io), 104 IO, DIFFIO_R2n (io), 105 IO, DIFFIO_R2p (io), 106 IO (io), 107 IO, DIFFIO_R1n (io), 108 IO, DIFFIO_R1p (io), 109 IO (io), 110 IO, DIFFIO_T13n (io), 111 IO, DIFFIO_T13p (io), 112 IO, DIFFIO_T12n (io), 113 IO, DIFFIO_T12p (io), 114 IO, DIFFIO_T11n (io), 117 IO, DIFFIO_T11p (io), 118 IO (io), 119 IO, DIFFIO_T10n (io), 120 IO, DIFFIO_T10p (io), 121 IO, DIFFIO_T9n (io), 122 IO, DIFFIO_T9p (io), 123 IO, DIFFIO_T8n (io), 124 IO, DIFFIO_T8p (io), 125 IO, DIFFIO_T7n (io), 127 IO, DIFFIO_T7p (io), 129 IO, DIFFIO_T6n (io), 130 IO, DIFFIO_T6p (io), 131 IO, DIFFIO_T5n (io), 132 IO, DIFFIO_T5p (io), 133 IO, DIFFIO_T4n (io), 134 IO, DIFFIO_T4p (io), 138 IO, DIFFIO_T3n (io), 139 IO, DIFFIO_T3p (io), 140 IO, DIFFIO_T2n (io), 141 IO, DIFFIO_T2p (io), 142 IO, DIFFIO_T1n (io), 143 IO, DIFFIO_T1p (io), 144 IO (io)
part C pins: 33 TMS (in), 34 TDI (in), 35 TCK (in), 36 TDO (out)
part D pins: 8 GND (power), 9 VCCIO1 (power), 10 GND (power), 17 GND (power), 19 VCCINT (power), 25 VCCIO1 (power), 26 GND (power), 46 VCCIO1 (power), 47 GND (power), 54 GND (power), 56 VCCINT (power), 64 VCCIO1 (power), 65 GND (power), 82 VCCIO2 (power), 83 GND (power), 90 VCCINT (power), 92 GND (power), 99 GND (power), 100 VCCIO2 (power), 115 GND (power), 116 VCCIO2 (power), 126 VCCINT (power), 128 GND (power), 135 GND (power), 136 VCCIO2 (power), 137 GND (power)
part A text: BANK 1
part B text: BANK 2

## 5M240ZT144I5N
designator U?
MAX V 1.8V CPLD, 114 IOs, 240 Logic Elements, 144-Pin TQFP, Industrial Temperature, Speed Grade 5, Pb-Free; DatasheetVersion: ver1.2, May-2011; PackageVersion: ver1.0, Jul-2011; PackageReference: TQFP144_A-160; PackageDescription: 144-Pin Plastic Thin Quad Flat Pack (TQFP) - Wire Bond - A:1.60; Code_JEDEC: MS-029-BFB; ComponentLink1Description: Manufacturer URL; ComponentLink1URL: http://www.altera.com/; ComponentLink2Description: Datasheet; ComponentLink2URL: http://www.altera.com/literature/hb/max-v/max5_handbook.pdf; ComponentLink3Description: MAX V Device Pin-Out files; ComponentLink3URL: http://www.altera.com/literature/lit-dp.jsp?category=MAX%205&showspreadsheet=y; ComponentLink4Description: Package Specification; ComponentLink4URL: http://www.altera.com/devicepackaging/04R00366-01.pdf
footprint TQFP144_A-160_N (Thin QFP, 144-Leads, Body 20x20mm, Pitch 0.5mm, IPC Medium Density)
footprint TQFP144_A-160_L (Thin QFP, 144-Leads, Body 20x20mm, Pitch 0.5mm, IPC High Density)
footprint TQFP144_A-160_M (Thin QFP, 144-Leads, Body 20x20mm, Pitch 0.5mm, IPC Low Density)
part A pins: 1 IO (io), 2 IO, DIFFIO_L1p (io), 3 IO, DIFFIO_L1n (io), 4 IO, DIFFIO_L2p (io), 5 IO, DIFFIO_L2n (io), 6 IO, DIFFIO_L3p (io), 7 IO, DIFFIO_L3n (io), 11 IO, DIFFIO_L4p (io), 12 IO, DIFFIO_L4n (io), 13 IO, DIFFIO_L5p (io), 14 IO, DIFFIO_L5n (io), 15 IO, DIFFIO_L6p (io), 16 IO, DIFFIO_L6n (io), 18 IO, CLK0 (io), 20 IO, CLK1 (io), 21 IO, DIFFIO_L7p (io), 22 IO, DIFFIO_L7n (io), 23 IO, DIFFIO_L8p (io), 24 IO, DIFFIO_L8n (io), 27 IO, DIFFIO_L9p (io), 28 IO, DIFFIO_L9n (io), 29 IO, DIFFIO_L10p (io), 30 IO, DIFFIO_L10n (io), 31 IO, DIFFIO_L11p (io), 32 IO, DIFFIO_L11n (io), 37 IO, DIFFIO_B1p (io), 38 IO, DIFFIO_B1n (io), 39 IO (io), 40 IO, DIFFIO_B2p (io), 41 IO, DIFFIO_B2n (io), 42 IO (io), 43 IO, DIFFIO_B3p (io), 44 IO, DIFFIO_B3n (io), 45 IO (io), 48 IO, DIFFIO_B4p (io), 49 IO, DIFFIO_B4n (io), 50 IO, DIFFIO_B5p (io), 51 IO, DIFFIO_B5n (io), 52 IO, DIFFIO_B6p (io), 53 IO, DIFFIO_B6n (io), 55 IO, DIFFIO_B7p (io), 57 IO, DIFFIO_B7n (io), 58 IO, DIFFIO_B8p (io), 59 IO, DIFFIO_B8n (io), 60 IO, DEV_OE, DIFFIO_B9p (io), 61 IO, DEV_CLRn, DIFFIO_B9n (io), 62 IO, DIFFIO_B10p (io), 63 IO, DIFFIO_B10n (io), 66 IO, DIFFIO_B11p (io), 67 IO, DIFFIO_B11n (io), 68 IO (io), 69 IO, DIFFIO_B12p (io), 70 IO, DIFFIO_B12n (io), 71 IO, DIFFIO_B13p (io), 72 IO, DIFFIO_B13n (io)
part B pins: 73 IO, DIFFIO_R12n (io), 74 IO, DIFFIO_R12p (io), 75 IO, DIFFIO_R11n (io), 76 IO, DIFFIO_R11p (io), 77 IO, DIFFIO_R10n (io), 78 IO, DIFFIO_R10p (io), 79 IO, DIFFIO_R9n (io), 80 IO, DIFFIO_R9p (io), 81 IO (io), 84 IO, DIFFIO_R8n (io), 85 IO, DIFFIO_R8p (io), 86 IO, DIFFIO_R7n (io), 87 IO, DIFFIO_R7p (io), 88 IO, DIFFIO_R6n (io), 89 IO, CLK2 (io), 91 IO, CLK3 (io), 93 IO, DIFFIO_R6p (io), 94 IO, DIFFIO_R5n (io), 95 IO, DIFFIO_R5p (io), 96 IO (io), 97 IO, DIFFIO_R4n (io), 98 IO, DIFFIO_R4p (io), 101 IO, DIFFIO_R3n (io), 102 IO, DIFFIO_R3p (io), 103 IO (io), 104 IO, DIFFIO_R2n (io), 105 IO, DIFFIO_R2p (io), 106 IO (io), 107 IO, DIFFIO_R1n (io), 108 IO, DIFFIO_R1p (io), 109 IO (io), 110 IO, DIFFIO_T13n (io), 111 IO, DIFFIO_T13p (io), 112 IO, DIFFIO_T12n (io), 113 IO, DIFFIO_T12p (io), 114 IO, DIFFIO_T11n (io), 117 IO, DIFFIO_T11p (io), 118 IO (io), 119 IO, DIFFIO_T10n (io), 120 IO, DIFFIO_T10p (io), 121 IO, DIFFIO_T9n (io), 122 IO, DIFFIO_T9p (io), 123 IO, DIFFIO_T8n (io), 124 IO, DIFFIO_T8p (io), 125 IO, DIFFIO_T7n (io), 127 IO, DIFFIO_T7p (io), 129 IO, DIFFIO_T6n (io), 130 IO, DIFFIO_T6p (io), 131 IO, DIFFIO_T5n (io), 132 IO, DIFFIO_T5p (io), 133 IO, DIFFIO_T4n (io), 134 IO, DIFFIO_T4p (io), 138 IO, DIFFIO_T3n (io), 139 IO, DIFFIO_T3p (io), 140 IO, DIFFIO_T2n (io), 141 IO, DIFFIO_T2p (io), 142 IO, DIFFIO_T1n (io), 143 IO, DIFFIO_T1p (io), 144 IO (io)
part C pins: 33 TMS (in), 34 TDI (in), 35 TCK (in), 36 TDO (out)
part D pins: 8 GND (power), 9 VCCIO1 (power), 10 GND (power), 17 GND (power), 19 VCCINT (power), 25 VCCIO1 (power), 26 GND (power), 46 VCCIO1 (power), 47 GND (power), 54 GND (power), 56 VCCINT (power), 64 VCCIO1 (power), 65 GND (power), 82 VCCIO2 (power), 83 GND (power), 90 VCCINT (power), 92 GND (power), 99 GND (power), 100 VCCIO2 (power), 115 GND (power), 116 VCCIO2 (power), 126 VCCINT (power), 128 GND (power), 135 GND (power), 136 VCCIO2 (power), 137 GND (power)
part A text: BANK 1
part B text: BANK 2

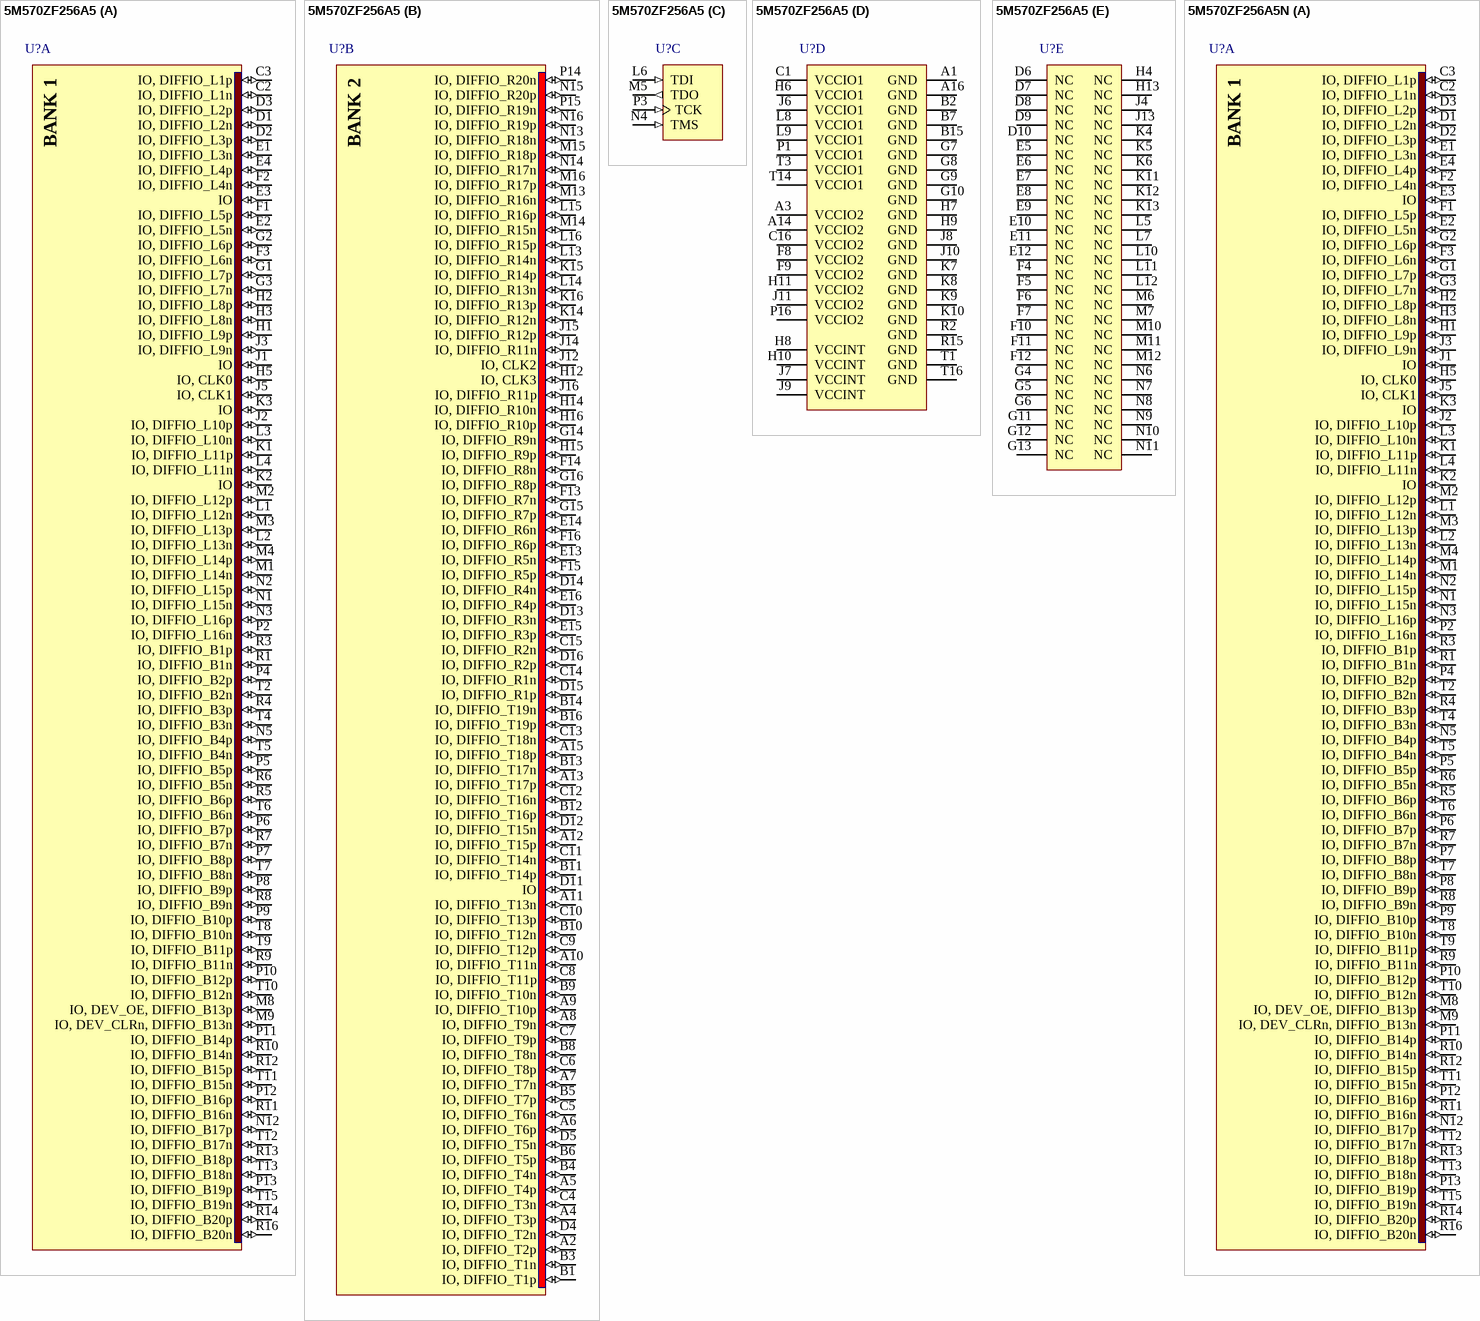
[diagram p29: symbols 5M570ZF256A5 to 5M570ZF256A5N]

## 5M570ZF256A5
designator U?
MAX V 1.8V CPLD, 159 IOs, 570 Logic Elements, 256-Pin FBGA, Automotive Temperature, Speed Grade 5; DatasheetVersion: ver1.2, May-2011; PackageVersion: ver2.0, Nov-2011; PackageReference: FBGA256_A-155; PackageDescription: 256-Pin FineLine Ball-Grid Array (FBGA) - Thin - Wire Bond - A:1.55; Code_JEDEC: MO-192-DAF-1; ComponentLink1Description: Manufacturer URL; ComponentLink1URL: http://www.altera.com/; ComponentLink2Description: Datasheet; ComponentLink2URL: http://www.altera.com/literature/hb/max-v/max5_handbook.pdf; ComponentLink3Description: MAX V Device Pin-Out files; ComponentLink3URL: http://www.altera.com/literature/lit-dp.jsp?category=MAX%205&showspreadsheet=y; ComponentLink4Description: Package Specification; ComponentLink4URL: http://www.altera.com/devicepackaging/04R-00230_03.pdf
footprint FBGA256_A-155 (BGA, 256-Leads, Body 17x17mm, Pitch 1mm)
part A pins: C2 IO, DIFFIO_L1n (io), C3 IO, DIFFIO_L1p (io), D1 IO, DIFFIO_L2n (io), D2 IO, DIFFIO_L3p (io), D3 IO, DIFFIO_L2p (io), E1 IO, DIFFIO_L3n (io), E2 IO, DIFFIO_L5n (io), E3 IO (io), E4 IO, DIFFIO_L4p (io), F1 IO, DIFFIO_L5p (io), F2 IO, DIFFIO_L4n (io), F3 IO, DIFFIO_L6n (io), G1 IO, DIFFIO_L7p (io), G2 IO, DIFFIO_L6p (io), G3 IO, DIFFIO_L7n (io), H1 IO, DIFFIO_L9p (io), H2 IO, DIFFIO_L8p (io), H3 IO, DIFFIO_L8n (io), H5 IO, CLK0 (io), J1 IO (io), J2 IO, DIFFIO_L10p (io), J3 IO, DIFFIO_L9n (io), J5 IO, CLK1 (io), K1 IO, DIFFIO_L11p (io), K2 IO (io), K3 IO (io), L1 IO, DIFFIO_L12n (io), L2 IO, DIFFIO_L13n (io), L3 IO, DIFFIO_L10n (io), L4 IO, DIFFIO_L11n (io), M1 IO, DIFFIO_L14n (io), M2 IO, DIFFIO_L12p (io), M3 IO, DIFFIO_L13p (io), M4 IO, DIFFIO_L14p (io), M8 IO, DEV_OE, DIFFIO_B13p (io), M9 IO, DEV_CLRn, DIFFIO_B13n (io), N1 IO, DIFFIO_L15n (io), N2 IO, DIFFIO_L15p (io), N3 IO, DIFFIO_L16p (io), N5 IO, DIFFIO_B4p (io), N12 IO, DIFFIO_B17p (io), P2 IO, DIFFIO_L16n (io), P4 IO, DIFFIO_B2p (io), P5 IO, DIFFIO_B5p (io), P6 IO, DIFFIO_B7p (io), P7 IO, DIFFIO_B8p (io), P8 IO, DIFFIO_B9p (io), P9 IO, DIFFIO_B10p (io), P10 IO, DIFFIO_B12p (io), P11 IO, DIFFIO_B14p (io), P12 IO, DIFFIO_B16p (io), P13 IO, DIFFIO_B19p (io), R1 IO, DIFFIO_B1n (io), R3 IO, DIFFIO_B1p (io), R4 IO, DIFFIO_B3p (io), R5 IO, DIFFIO_B6p (io), R6 IO, DIFFIO_B5n (io), R7 IO, DIFFIO_B7n (io), R8 IO, DIFFIO_B9n (io), R9 IO, DIFFIO_B11n (io), R10 IO, DIFFIO_B14n (io), R11 IO, DIFFIO_B16n (io), R12 IO, DIFFIO_B15p (io), R13 IO, DIFFIO_B18p (io), R14 IO, DIFFIO_B20p (io), R16 IO, DIFFIO_B20n (io), T2 IO, DIFFIO_B2n (io), T4 IO, DIFFIO_B3n (io), T5 IO, DIFFIO_B4n (io), T6 IO, DIFFIO_B6n (io), T7 IO, DIFFIO_B8n (io), T8 IO, DIFFIO_B10n (io), T9 IO, DIFFIO_B11p (io), T10 IO, DIFFIO_B12n (io), T11 IO, DIFFIO_B15n (io), T12 IO, DIFFIO_B17n (io), T13 IO, DIFFIO_B18n (io), T15 IO, DIFFIO_B19n (io)
part B pins: A2 IO, DIFFIO_T2p (io), A4 IO, DIFFIO_T3p (io), A5 IO, DIFFIO_T4p (io), A6 IO, DIFFIO_T6p (io), A7 IO, DIFFIO_T7n (io), A8 IO, DIFFIO_T9n (io), A9 IO, DIFFIO_T10p (io), A10 IO, DIFFIO_T11n (io), A11 IO, DIFFIO_T13n (io), A12 IO, DIFFIO_T15p (io), A13 IO, DIFFIO_T17p (io), A15 IO, DIFFIO_T18p (io), B1 IO, DIFFIO_T1p (io), B3 IO, DIFFIO_T1n (io), B4 IO, DIFFIO_T4n (io), B5 IO, DIFFIO_T7p (io), B6 IO, DIFFIO_T5p (io), B8 IO, DIFFIO_T8n (io), B9 IO, DIFFIO_T10n (io), B10 IO, DIFFIO_T12n (io), B11 IO, DIFFIO_T14p (io), B12 IO, DIFFIO_T16p (io), B13 IO, DIFFIO_T17n (io), B14 IO, DIFFIO_T19n (io), B16 IO, DIFFIO_T19p (io), C4 IO, DIFFIO_T3n (io), C5 IO, DIFFIO_T6n (io), C6 IO, DIFFIO_T8p (io), C7 IO, DIFFIO_T9p (io), C8 IO, DIFFIO_T11p (io), C9 IO, DIFFIO_T12p (io), C10 IO, DIFFIO_T13p (io), C11 IO, DIFFIO_T14n (io), C12 IO, DIFFIO_T16n (io), C13 IO, DIFFIO_T18n (io), C14 IO, DIFFIO_R1n (io), C15 IO, DIFFIO_R2n (io), D4 IO, DIFFIO_T2n (io), D5 IO, DIFFIO_T5n (io), D11 IO (io), D12 IO, DIFFIO_T15n (io), D13 IO, DIFFIO_R3n (io), D14 IO, DIFFIO_R4n (io), D15 IO, DIFFIO_R1p (io), D16 IO, DIFFIO_R2p (io), E13 IO, DIFFIO_R5n (io), E14 IO, DIFFIO_R6n (io), E15 IO, DIFFIO_R3p (io), E16 IO, DIFFIO_R4p (io), F13 IO, DIFFIO_R7n (io), F14 IO, DIFFIO_R8n (io), F15 IO, DIFFIO_R5p (io), F16 IO, DIFFIO_R6p (io), G14 IO, DIFFIO_R9n (io), G15 IO, DIFFIO_R7p (io), G16 IO, DIFFIO_R8p (io), H12 IO, CLK3 (io), H14 IO, DIFFIO_R10n (io), H15 IO, DIFFIO_R9p (io), H16 IO, DIFFIO_R10p (io), J12 IO, CLK2 (io), J14 IO, DIFFIO_R11n (io), J15 IO, DIFFIO_R12p (io), J16 IO, DIFFIO_R11p (io), K14 IO, DIFFIO_R12n (io), K15 IO, DIFFIO_R14p (io), K16 IO, DIFFIO_R13p (io), L13 IO, DIFFIO_R14n (io), L14 IO, DIFFIO_R13n (io), L15 IO, DIFFIO_R16p (io), L16 IO, DIFFIO_R15p (io), M13 IO, DIFFIO_R16n (io), M14 IO, DIFFIO_R15n (io), M15 IO, DIFFIO_R18p (io), M16 IO, DIFFIO_R17p (io), N13 IO, DIFFIO_R18n (io), N14 IO, DIFFIO_R17n (io), N15 IO, DIFFIO_R20p (io), N16 IO, DIFFIO_R19p (io), P14 IO, DIFFIO_R20n (io), P15 IO, DIFFIO_R19n (io)
part C pins: L6 TDI (in), M5 TDO (out), N4 TMS (in), P3 TCK (in)
part D pins: A1 GND (power), A3 VCCIO2 (power), A14 VCCIO2 (power), A16 GND (power), B2 GND (power), B7 GND (power), B15 GND (power), C1 VCCIO1 (power), C16 VCCIO2 (power), F8 VCCIO2 (power), F9 VCCIO2 (power), G7 GND (power), G8 GND (power), G9 GND (power), G10 GND (power), H6 VCCIO1 (power), H7 GND (power), H8 VCCINT (power), H9 GND (power), H10 VCCINT (power), H11 VCCIO2 (power), J6 VCCIO1 (power), J7 VCCINT (power), J8 GND (power), J9 VCCINT (power), J10 GND (power), J11 VCCIO2 (power), K7 GND (power), K8 GND (power), K9 GND (power), K10 GND (power), L8 VCCIO1 (power), L9 VCCIO1 (power), P1 VCCIO1 (power), P16 VCCIO2 (power), R2 GND (power), R15 GND (power), T1 GND (power), T3 VCCIO1 (power), T14 VCCIO1 (power), T16 GND (power)
part E pins: D6 NC, D7 NC, D8 NC, D9 NC, D10 NC, E5 NC, E6 NC, E7 NC, E8 NC, E9 NC, E10 NC, E11 NC, E12 NC, F4 NC, F5 NC, F6 NC, F7 NC, F10 NC, F11 NC, F12 NC, G4 NC, G5 NC, G6 NC, G11 NC, G12 NC, G13 NC, H4 NC, H13 NC, J4 NC, J13 NC, K4 NC, K5 NC, K6 NC, K11 NC, K12 NC, K13 NC, L5 NC, L7 NC, L10 NC, L11 NC, L12 NC, M6 NC, M7 NC, M10 NC, M11 NC, M12 NC, N6 NC, N7 NC, N8 NC, N9 NC, N10 NC, N11 NC
part A text: BANK 1
part B text: BANK 2

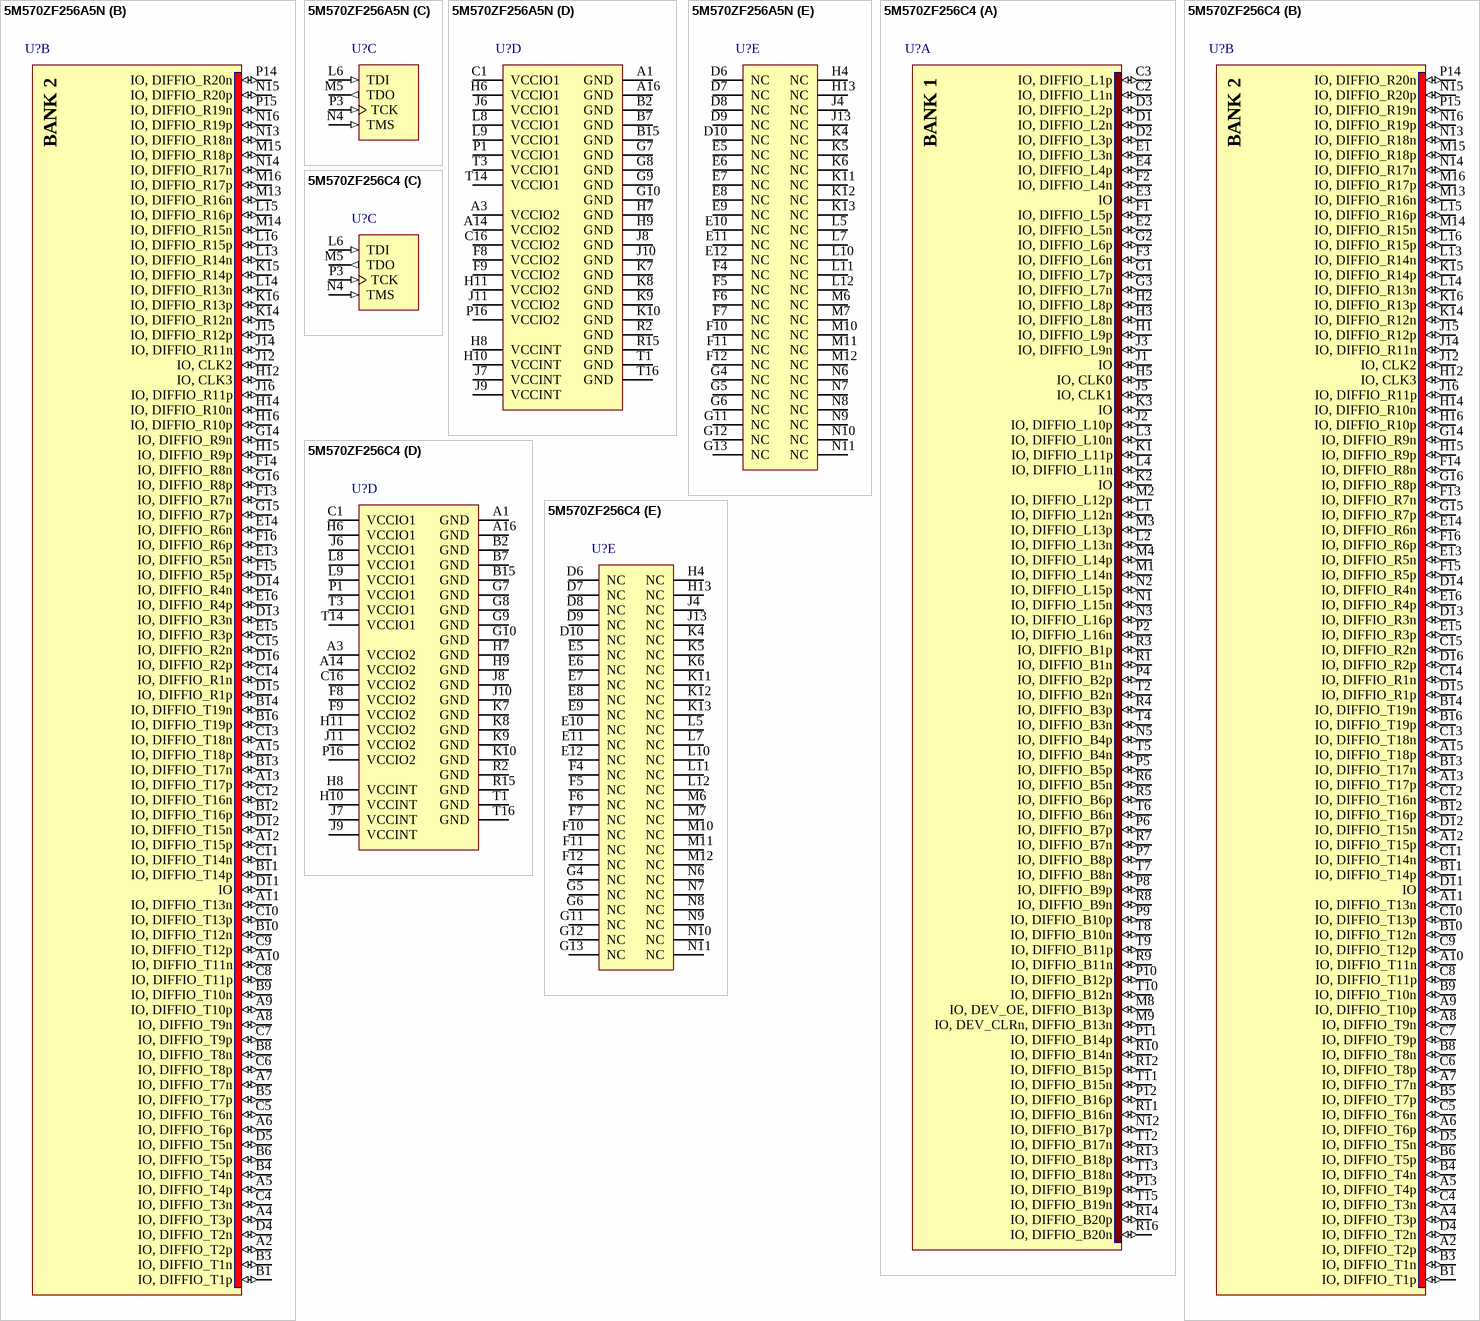
[diagram p30: symbols 5M570ZF256A5N to 5M570ZF256C4]

## 5M570ZF256A5N
designator U?
MAX V 1.8V CPLD, 159 IOs, 570 Logic Elements, 256-Pin FBGA, Automotive Temperature, Speed Grade 5, Pb-Free; DatasheetVersion: ver1.2, May-2011; PackageVersion: ver2.0, Nov-2011; PackageReference: FBGA256_A-155; PackageDescription: 256-Pin FineLine Ball-Grid Array (FBGA) - Thin - Wire Bond - A:1.55; Code_JEDEC: MO-192-DAF-1; ComponentLink1Description: Manufacturer URL; ComponentLink1URL: http://www.altera.com/; ComponentLink2Description: Datasheet; ComponentLink2URL: http://www.altera.com/literature/hb/max-v/max5_handbook.pdf; ComponentLink3Description: MAX V Device Pin-Out files; ComponentLink3URL: http://www.altera.com/literature/lit-dp.jsp?category=MAX%205&showspreadsheet=y; ComponentLink4Description: Package Specification; ComponentLink4URL: http://www.altera.com/devicepackaging/04R-00230_03.pdf
footprint FBGA256_A-155 (BGA, 256-Leads, Body 17x17mm, Pitch 1mm)
part A pins: C2 IO, DIFFIO_L1n (io), C3 IO, DIFFIO_L1p (io), D1 IO, DIFFIO_L2n (io), D2 IO, DIFFIO_L3p (io), D3 IO, DIFFIO_L2p (io), E1 IO, DIFFIO_L3n (io), E2 IO, DIFFIO_L5n (io), E3 IO (io), E4 IO, DIFFIO_L4p (io), F1 IO, DIFFIO_L5p (io), F2 IO, DIFFIO_L4n (io), F3 IO, DIFFIO_L6n (io), G1 IO, DIFFIO_L7p (io), G2 IO, DIFFIO_L6p (io), G3 IO, DIFFIO_L7n (io), H1 IO, DIFFIO_L9p (io), H2 IO, DIFFIO_L8p (io), H3 IO, DIFFIO_L8n (io), H5 IO, CLK0 (io), J1 IO (io), J2 IO, DIFFIO_L10p (io), J3 IO, DIFFIO_L9n (io), J5 IO, CLK1 (io), K1 IO, DIFFIO_L11p (io), K2 IO (io), K3 IO (io), L1 IO, DIFFIO_L12n (io), L2 IO, DIFFIO_L13n (io), L3 IO, DIFFIO_L10n (io), L4 IO, DIFFIO_L11n (io), M1 IO, DIFFIO_L14n (io), M2 IO, DIFFIO_L12p (io), M3 IO, DIFFIO_L13p (io), M4 IO, DIFFIO_L14p (io), M8 IO, DEV_OE, DIFFIO_B13p (io), M9 IO, DEV_CLRn, DIFFIO_B13n (io), N1 IO, DIFFIO_L15n (io), N2 IO, DIFFIO_L15p (io), N3 IO, DIFFIO_L16p (io), N5 IO, DIFFIO_B4p (io), N12 IO, DIFFIO_B17p (io), P2 IO, DIFFIO_L16n (io), P4 IO, DIFFIO_B2p (io), P5 IO, DIFFIO_B5p (io), P6 IO, DIFFIO_B7p (io), P7 IO, DIFFIO_B8p (io), P8 IO, DIFFIO_B9p (io), P9 IO, DIFFIO_B10p (io), P10 IO, DIFFIO_B12p (io), P11 IO, DIFFIO_B14p (io), P12 IO, DIFFIO_B16p (io), P13 IO, DIFFIO_B19p (io), R1 IO, DIFFIO_B1n (io), R3 IO, DIFFIO_B1p (io), R4 IO, DIFFIO_B3p (io), R5 IO, DIFFIO_B6p (io), R6 IO, DIFFIO_B5n (io), R7 IO, DIFFIO_B7n (io), R8 IO, DIFFIO_B9n (io), R9 IO, DIFFIO_B11n (io), R10 IO, DIFFIO_B14n (io), R11 IO, DIFFIO_B16n (io), R12 IO, DIFFIO_B15p (io), R13 IO, DIFFIO_B18p (io), R14 IO, DIFFIO_B20p (io), R16 IO, DIFFIO_B20n (io), T2 IO, DIFFIO_B2n (io), T4 IO, DIFFIO_B3n (io), T5 IO, DIFFIO_B4n (io), T6 IO, DIFFIO_B6n (io), T7 IO, DIFFIO_B8n (io), T8 IO, DIFFIO_B10n (io), T9 IO, DIFFIO_B11p (io), T10 IO, DIFFIO_B12n (io), T11 IO, DIFFIO_B15n (io), T12 IO, DIFFIO_B17n (io), T13 IO, DIFFIO_B18n (io), T15 IO, DIFFIO_B19n (io)
part B pins: A2 IO, DIFFIO_T2p (io), A4 IO, DIFFIO_T3p (io), A5 IO, DIFFIO_T4p (io), A6 IO, DIFFIO_T6p (io), A7 IO, DIFFIO_T7n (io), A8 IO, DIFFIO_T9n (io), A9 IO, DIFFIO_T10p (io), A10 IO, DIFFIO_T11n (io), A11 IO, DIFFIO_T13n (io), A12 IO, DIFFIO_T15p (io), A13 IO, DIFFIO_T17p (io), A15 IO, DIFFIO_T18p (io), B1 IO, DIFFIO_T1p (io), B3 IO, DIFFIO_T1n (io), B4 IO, DIFFIO_T4n (io), B5 IO, DIFFIO_T7p (io), B6 IO, DIFFIO_T5p (io), B8 IO, DIFFIO_T8n (io), B9 IO, DIFFIO_T10n (io), B10 IO, DIFFIO_T12n (io), B11 IO, DIFFIO_T14p (io), B12 IO, DIFFIO_T16p (io), B13 IO, DIFFIO_T17n (io), B14 IO, DIFFIO_T19n (io), B16 IO, DIFFIO_T19p (io), C4 IO, DIFFIO_T3n (io), C5 IO, DIFFIO_T6n (io), C6 IO, DIFFIO_T8p (io), C7 IO, DIFFIO_T9p (io), C8 IO, DIFFIO_T11p (io), C9 IO, DIFFIO_T12p (io), C10 IO, DIFFIO_T13p (io), C11 IO, DIFFIO_T14n (io), C12 IO, DIFFIO_T16n (io), C13 IO, DIFFIO_T18n (io), C14 IO, DIFFIO_R1n (io), C15 IO, DIFFIO_R2n (io), D4 IO, DIFFIO_T2n (io), D5 IO, DIFFIO_T5n (io), D11 IO (io), D12 IO, DIFFIO_T15n (io), D13 IO, DIFFIO_R3n (io), D14 IO, DIFFIO_R4n (io), D15 IO, DIFFIO_R1p (io), D16 IO, DIFFIO_R2p (io), E13 IO, DIFFIO_R5n (io), E14 IO, DIFFIO_R6n (io), E15 IO, DIFFIO_R3p (io), E16 IO, DIFFIO_R4p (io), F13 IO, DIFFIO_R7n (io), F14 IO, DIFFIO_R8n (io), F15 IO, DIFFIO_R5p (io), F16 IO, DIFFIO_R6p (io), G14 IO, DIFFIO_R9n (io), G15 IO, DIFFIO_R7p (io), G16 IO, DIFFIO_R8p (io), H12 IO, CLK3 (io), H14 IO, DIFFIO_R10n (io), H15 IO, DIFFIO_R9p (io), H16 IO, DIFFIO_R10p (io), J12 IO, CLK2 (io), J14 IO, DIFFIO_R11n (io), J15 IO, DIFFIO_R12p (io), J16 IO, DIFFIO_R11p (io), K14 IO, DIFFIO_R12n (io), K15 IO, DIFFIO_R14p (io), K16 IO, DIFFIO_R13p (io), L13 IO, DIFFIO_R14n (io), L14 IO, DIFFIO_R13n (io), L15 IO, DIFFIO_R16p (io), L16 IO, DIFFIO_R15p (io), M13 IO, DIFFIO_R16n (io), M14 IO, DIFFIO_R15n (io), M15 IO, DIFFIO_R18p (io), M16 IO, DIFFIO_R17p (io), N13 IO, DIFFIO_R18n (io), N14 IO, DIFFIO_R17n (io), N15 IO, DIFFIO_R20p (io), N16 IO, DIFFIO_R19p (io), P14 IO, DIFFIO_R20n (io), P15 IO, DIFFIO_R19n (io)
part C pins: L6 TDI (in), M5 TDO (out), N4 TMS (in), P3 TCK (in)
part D pins: A1 GND (power), A3 VCCIO2 (power), A14 VCCIO2 (power), A16 GND (power), B2 GND (power), B7 GND (power), B15 GND (power), C1 VCCIO1 (power), C16 VCCIO2 (power), F8 VCCIO2 (power), F9 VCCIO2 (power), G7 GND (power), G8 GND (power), G9 GND (power), G10 GND (power), H6 VCCIO1 (power), H7 GND (power), H8 VCCINT (power), H9 GND (power), H10 VCCINT (power), H11 VCCIO2 (power), J6 VCCIO1 (power), J7 VCCINT (power), J8 GND (power), J9 VCCINT (power), J10 GND (power), J11 VCCIO2 (power), K7 GND (power), K8 GND (power), K9 GND (power), K10 GND (power), L8 VCCIO1 (power), L9 VCCIO1 (power), P1 VCCIO1 (power), P16 VCCIO2 (power), R2 GND (power), R15 GND (power), T1 GND (power), T3 VCCIO1 (power), T14 VCCIO1 (power), T16 GND (power)
part E pins: D6 NC, D7 NC, D8 NC, D9 NC, D10 NC, E5 NC, E6 NC, E7 NC, E8 NC, E9 NC, E10 NC, E11 NC, E12 NC, F4 NC, F5 NC, F6 NC, F7 NC, F10 NC, F11 NC, F12 NC, G4 NC, G5 NC, G6 NC, G11 NC, G12 NC, G13 NC, H4 NC, H13 NC, J4 NC, J13 NC, K4 NC, K5 NC, K6 NC, K11 NC, K12 NC, K13 NC, L5 NC, L7 NC, L10 NC, L11 NC, L12 NC, M6 NC, M7 NC, M10 NC, M11 NC, M12 NC, N6 NC, N7 NC, N8 NC, N9 NC, N10 NC, N11 NC
part A text: BANK 1
part B text: BANK 2

## 5M570ZF256C4
designator U?
MAX V 1.8V CPLD, 159 IOs, 570 Logic Elements, 256-Pin FBGA, Commercial Temperature, Speed Grade 4; DatasheetVersion: ver1.2, May-2011; PackageVersion: ver2.0, Nov-2011; PackageReference: FBGA256_A-155; PackageDescription: 256-Pin FineLine Ball-Grid Array (FBGA) - Thin - Wire Bond - A:1.55; Code_JEDEC: MO-192-DAF-1; ComponentLink1Description: Manufacturer URL; ComponentLink1URL: http://www.altera.com/; ComponentLink2Description: Datasheet; ComponentLink2URL: http://www.altera.com/literature/hb/max-v/max5_handbook.pdf; ComponentLink3Description: MAX V Device Pin-Out files; ComponentLink3URL: http://www.altera.com/literature/lit-dp.jsp?category=MAX%205&showspreadsheet=y; ComponentLink4Description: Package Specification; ComponentLink4URL: http://www.altera.com/devicepackaging/04R-00230_03.pdf
footprint FBGA256_A-155 (BGA, 256-Leads, Body 17x17mm, Pitch 1mm)
part A pins: C2 IO, DIFFIO_L1n (io), C3 IO, DIFFIO_L1p (io), D1 IO, DIFFIO_L2n (io), D2 IO, DIFFIO_L3p (io), D3 IO, DIFFIO_L2p (io), E1 IO, DIFFIO_L3n (io), E2 IO, DIFFIO_L5n (io), E3 IO (io), E4 IO, DIFFIO_L4p (io), F1 IO, DIFFIO_L5p (io), F2 IO, DIFFIO_L4n (io), F3 IO, DIFFIO_L6n (io), G1 IO, DIFFIO_L7p (io), G2 IO, DIFFIO_L6p (io), G3 IO, DIFFIO_L7n (io), H1 IO, DIFFIO_L9p (io), H2 IO, DIFFIO_L8p (io), H3 IO, DIFFIO_L8n (io), H5 IO, CLK0 (io), J1 IO (io), J2 IO, DIFFIO_L10p (io), J3 IO, DIFFIO_L9n (io), J5 IO, CLK1 (io), K1 IO, DIFFIO_L11p (io), K2 IO (io), K3 IO (io), L1 IO, DIFFIO_L12n (io), L2 IO, DIFFIO_L13n (io), L3 IO, DIFFIO_L10n (io), L4 IO, DIFFIO_L11n (io), M1 IO, DIFFIO_L14n (io), M2 IO, DIFFIO_L12p (io), M3 IO, DIFFIO_L13p (io), M4 IO, DIFFIO_L14p (io), M8 IO, DEV_OE, DIFFIO_B13p (io), M9 IO, DEV_CLRn, DIFFIO_B13n (io), N1 IO, DIFFIO_L15n (io), N2 IO, DIFFIO_L15p (io), N3 IO, DIFFIO_L16p (io), N5 IO, DIFFIO_B4p (io), N12 IO, DIFFIO_B17p (io), P2 IO, DIFFIO_L16n (io), P4 IO, DIFFIO_B2p (io), P5 IO, DIFFIO_B5p (io), P6 IO, DIFFIO_B7p (io), P7 IO, DIFFIO_B8p (io), P8 IO, DIFFIO_B9p (io), P9 IO, DIFFIO_B10p (io), P10 IO, DIFFIO_B12p (io), P11 IO, DIFFIO_B14p (io), P12 IO, DIFFIO_B16p (io), P13 IO, DIFFIO_B19p (io), R1 IO, DIFFIO_B1n (io), R3 IO, DIFFIO_B1p (io), R4 IO, DIFFIO_B3p (io), R5 IO, DIFFIO_B6p (io), R6 IO, DIFFIO_B5n (io), R7 IO, DIFFIO_B7n (io), R8 IO, DIFFIO_B9n (io), R9 IO, DIFFIO_B11n (io), R10 IO, DIFFIO_B14n (io), R11 IO, DIFFIO_B16n (io), R12 IO, DIFFIO_B15p (io), R13 IO, DIFFIO_B18p (io), R14 IO, DIFFIO_B20p (io), R16 IO, DIFFIO_B20n (io), T2 IO, DIFFIO_B2n (io), T4 IO, DIFFIO_B3n (io), T5 IO, DIFFIO_B4n (io), T6 IO, DIFFIO_B6n (io), T7 IO, DIFFIO_B8n (io), T8 IO, DIFFIO_B10n (io), T9 IO, DIFFIO_B11p (io), T10 IO, DIFFIO_B12n (io), T11 IO, DIFFIO_B15n (io), T12 IO, DIFFIO_B17n (io), T13 IO, DIFFIO_B18n (io), T15 IO, DIFFIO_B19n (io)
part B pins: A2 IO, DIFFIO_T2p (io), A4 IO, DIFFIO_T3p (io), A5 IO, DIFFIO_T4p (io), A6 IO, DIFFIO_T6p (io), A7 IO, DIFFIO_T7n (io), A8 IO, DIFFIO_T9n (io), A9 IO, DIFFIO_T10p (io), A10 IO, DIFFIO_T11n (io), A11 IO, DIFFIO_T13n (io), A12 IO, DIFFIO_T15p (io), A13 IO, DIFFIO_T17p (io), A15 IO, DIFFIO_T18p (io), B1 IO, DIFFIO_T1p (io), B3 IO, DIFFIO_T1n (io), B4 IO, DIFFIO_T4n (io), B5 IO, DIFFIO_T7p (io), B6 IO, DIFFIO_T5p (io), B8 IO, DIFFIO_T8n (io), B9 IO, DIFFIO_T10n (io), B10 IO, DIFFIO_T12n (io), B11 IO, DIFFIO_T14p (io), B12 IO, DIFFIO_T16p (io), B13 IO, DIFFIO_T17n (io), B14 IO, DIFFIO_T19n (io), B16 IO, DIFFIO_T19p (io), C4 IO, DIFFIO_T3n (io), C5 IO, DIFFIO_T6n (io), C6 IO, DIFFIO_T8p (io), C7 IO, DIFFIO_T9p (io), C8 IO, DIFFIO_T11p (io), C9 IO, DIFFIO_T12p (io), C10 IO, DIFFIO_T13p (io), C11 IO, DIFFIO_T14n (io), C12 IO, DIFFIO_T16n (io), C13 IO, DIFFIO_T18n (io), C14 IO, DIFFIO_R1n (io), C15 IO, DIFFIO_R2n (io), D4 IO, DIFFIO_T2n (io), D5 IO, DIFFIO_T5n (io), D11 IO (io), D12 IO, DIFFIO_T15n (io), D13 IO, DIFFIO_R3n (io), D14 IO, DIFFIO_R4n (io), D15 IO, DIFFIO_R1p (io), D16 IO, DIFFIO_R2p (io), E13 IO, DIFFIO_R5n (io), E14 IO, DIFFIO_R6n (io), E15 IO, DIFFIO_R3p (io), E16 IO, DIFFIO_R4p (io), F13 IO, DIFFIO_R7n (io), F14 IO, DIFFIO_R8n (io), F15 IO, DIFFIO_R5p (io), F16 IO, DIFFIO_R6p (io), G14 IO, DIFFIO_R9n (io), G15 IO, DIFFIO_R7p (io), G16 IO, DIFFIO_R8p (io), H12 IO, CLK3 (io), H14 IO, DIFFIO_R10n (io), H15 IO, DIFFIO_R9p (io), H16 IO, DIFFIO_R10p (io), J12 IO, CLK2 (io), J14 IO, DIFFIO_R11n (io), J15 IO, DIFFIO_R12p (io), J16 IO, DIFFIO_R11p (io), K14 IO, DIFFIO_R12n (io), K15 IO, DIFFIO_R14p (io), K16 IO, DIFFIO_R13p (io), L13 IO, DIFFIO_R14n (io), L14 IO, DIFFIO_R13n (io), L15 IO, DIFFIO_R16p (io), L16 IO, DIFFIO_R15p (io), M13 IO, DIFFIO_R16n (io), M14 IO, DIFFIO_R15n (io), M15 IO, DIFFIO_R18p (io), M16 IO, DIFFIO_R17p (io), N13 IO, DIFFIO_R18n (io), N14 IO, DIFFIO_R17n (io), N15 IO, DIFFIO_R20p (io), N16 IO, DIFFIO_R19p (io), P14 IO, DIFFIO_R20n (io), P15 IO, DIFFIO_R19n (io)
part C pins: L6 TDI (in), M5 TDO (out), N4 TMS (in), P3 TCK (in)
part D pins: A1 GND (power), A3 VCCIO2 (power), A14 VCCIO2 (power), A16 GND (power), B2 GND (power), B7 GND (power), B15 GND (power), C1 VCCIO1 (power), C16 VCCIO2 (power), F8 VCCIO2 (power), F9 VCCIO2 (power), G7 GND (power), G8 GND (power), G9 GND (power), G10 GND (power), H6 VCCIO1 (power), H7 GND (power), H8 VCCINT (power), H9 GND (power), H10 VCCINT (power), H11 VCCIO2 (power), J6 VCCIO1 (power), J7 VCCINT (power), J8 GND (power), J9 VCCINT (power), J10 GND (power), J11 VCCIO2 (power), K7 GND (power), K8 GND (power), K9 GND (power), K10 GND (power), L8 VCCIO1 (power), L9 VCCIO1 (power), P1 VCCIO1 (power), P16 VCCIO2 (power), R2 GND (power), R15 GND (power), T1 GND (power), T3 VCCIO1 (power), T14 VCCIO1 (power), T16 GND (power)
part E pins: D6 NC, D7 NC, D8 NC, D9 NC, D10 NC, E5 NC, E6 NC, E7 NC, E8 NC, E9 NC, E10 NC, E11 NC, E12 NC, F4 NC, F5 NC, F6 NC, F7 NC, F10 NC, F11 NC, F12 NC, G4 NC, G5 NC, G6 NC, G11 NC, G12 NC, G13 NC, H4 NC, H13 NC, J4 NC, J13 NC, K4 NC, K5 NC, K6 NC, K11 NC, K12 NC, K13 NC, L5 NC, L7 NC, L10 NC, L11 NC, L12 NC, M6 NC, M7 NC, M10 NC, M11 NC, M12 NC, N6 NC, N7 NC, N8 NC, N9 NC, N10 NC, N11 NC
part A text: BANK 1
part B text: BANK 2

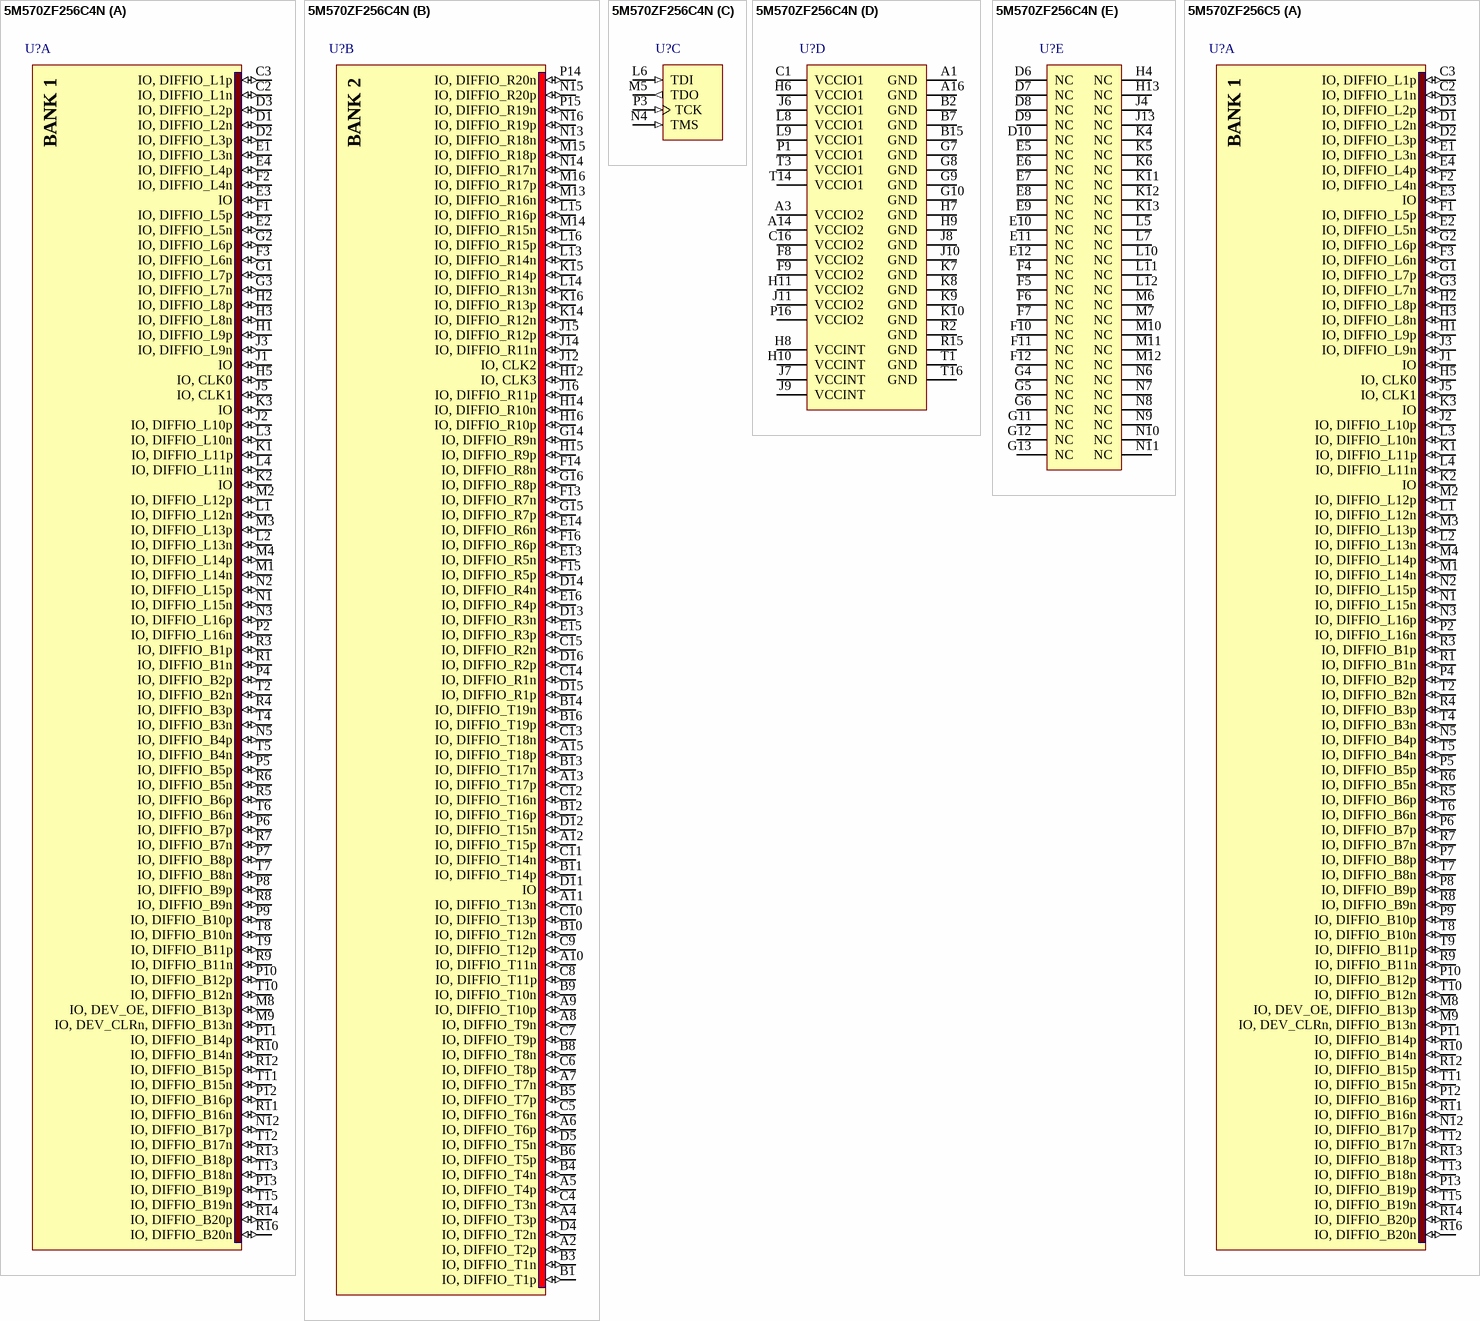
[diagram p31: symbols 5M570ZF256C4N to 5M570ZF256C5]